# Altium schematic symbol library Lib_001.SchLib: 489 symbols (part 3 of 4)
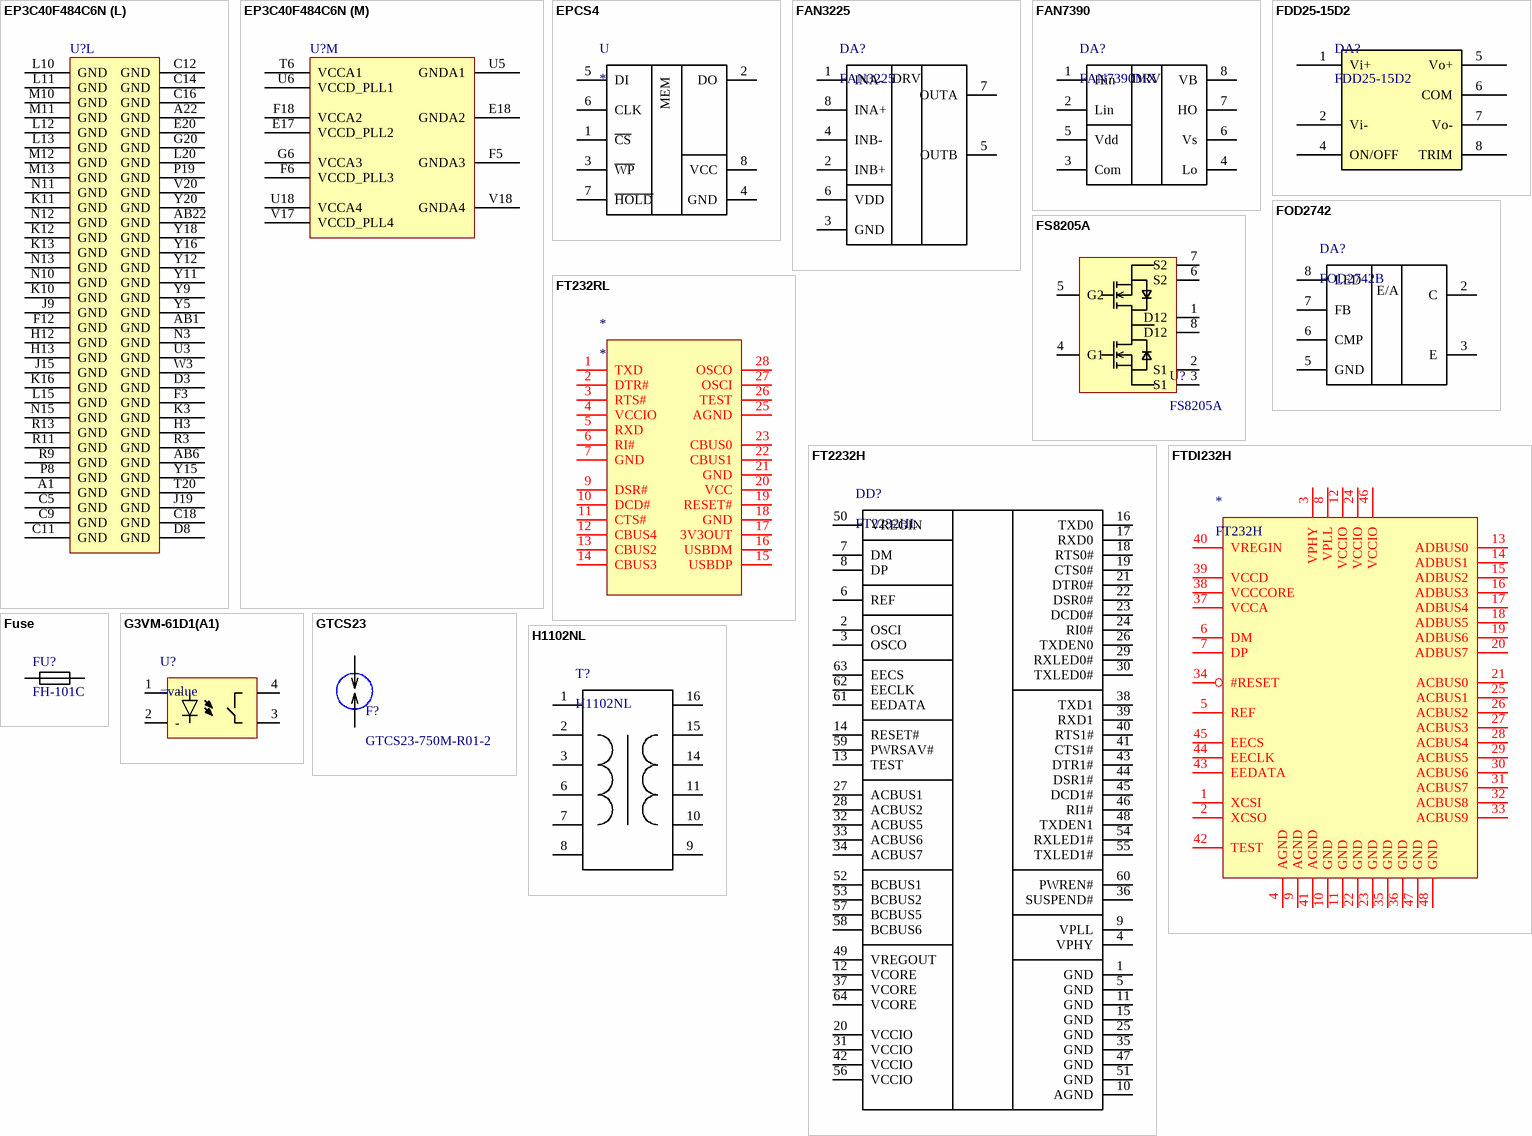
[diagram p38: symbols EP3C40F484C6N to H1102NL]

## EP3C40F484C6N
designator U?
Cyclone III Family FPGA, 331 I/O Pins, 4 PLLs, 484-Pin FBGA, Speed Grade 6, Commercial Grade, Pb-Free; Published: 26-Feb-2007; DatasheetVersion: ver2.0, May-2008; PackageVersion: ver16.0, Dec-2009; PackageReference: FBGA484-3; Publisher: Altium Limited; PackageDescription: 484-Ball FineLine Ball Grid Array (FBGA484) - Option 3 - Wire Bond; Supplier 1: Digi-Key; Supplier Part Number 1: 544-2490-ND; Code_JEDEC: MS-034-AAJ-1; ComponentLink1Description: Manufacturer Link; ComponentLink1URL: http://www.altera.com/; ComponentLink2Description: Handbook (7.86MB); ComponentLink2URL: http://www.altera.com/literature/hb/cyc3/cyclone3_handbook.pdf; ComponentLink3Description: Packaging Specification; ComponentLink3URL: http://www.altera.com/literature/ds/dspkg.pdf
footprint FBGA484-3 (BGA, 484-Leads, Body 23x23mm, Pitch 1mm)
3D model EP3C40-FBGA484-3 (484-Ball FineLine Ball Grid Array (FBGA484) - Option 3 - Wire Bond)
signal-integrity model EP3C40_F484 (Cyclone III)
footprint FBGA484-3 (BGA, 484-Leads, Body 23x23mm, Pitch 1mm)
3D model EP3C40-FBGA484-3 (PCB3D Model)
part A pins: B1 IO, DIFFIO_L2n, (DQ2L)/(DQ1L)/(DQ1L) (io), B2 IO, DIFFIO_L2p, (DQ2L)/(DQ1L)/(DQ1L) (io), C1 IO, DIFFIO_L7n, (DQ2L)/(DQ1L)/(DQ1L) (io), C2 IO, DIFFIO_L7p, (DQS2L/CQ3L,CDPCLK0)/(DQS2L/CQ3L,CDPCLK0)/(DQS2L/CQ3L,CDPCLK0) (io), D1 IO, DIFFIO_L8n, (DATA1, ASDO) (io), D2 IO, DIFFIO_L8p, (DQ2L)/(DQ1L)/(DQ1L) (io), E1 IO, DIFFIO_L10n, _/(DQ1L)/(DQ1L) (io), E2 IO, DIFFIO_L10p, (FLASH_nCE, nCSO) (io), E3 IO, DIFFIO_L4n, (DQ2L)/(DQ1L)/(DQ1L) (io), E4 IO, DIFFIO_L4p, (nRESET), (DQ2L)/(DQ1L)/(DQ1L) (io), F1 IO, DIFFIO_L12n, (DQ0L)/(DQ1L)/(DQ1L) (io), F2 IO, DIFFIO_L12p, (DM2L)/(DM1L0/BWS#1L0)/(DM1L0/BWS#1L0) (io), G3 IO, DIFFIO_L1n (io), G4 IO, DIFFIO_L1p (io), G5 IO, VREFB1N0 (io), H1 IO, DIFFIO_L23n, (DQ0L)/(DQ1L)/(DQ1L) (io), H2 IO, DIFFIO_L23p, (DQ0L)/(DQ1L)/(DQ1L) (io), H5 IO, VREFB1N2 (io), H6 IO, DIFFIO_L9p, (DQ2L)/(DQ1L)/(DQ1L) (io), H7 IO, VREFB1N1 (io), H8 IO, DIFFIO_L14p (io), J1 IO, DIFFIO_L24n, (DQ0L)/(DQ1L)/(DQ1L) (io), J2 IO, DIFFIO_L24p, (DQ0L)/(DQ1L)/(DQ1L) (io), J3 IO, VREFB1N3 (io), J4 IO, (DQS0L/CQ1L,DPCLK0)/(DQS0L/CQ1L,DPCLK0)/(DQS0L/CQ1L,DPCLK0) (io), J5 IO (io), J6 IO, DIFFIO_L9n, (DQ2L)/(DQ1L)/(DQ1L) (io), J7 IO, DIFFIO_L21p (io), J8 IO, DIFFIO_L14n (io), K1 IO, (DATA0) (io), K7 IO, DIFFIO_L21n (io), K8 IO, DIFFIO_L20n (io), L8 IO, DIFFIO_L20p (io)
part B pins: AA1 IO, DIFFIO_L50n, (DQ3L)/(DQ3L)/(DQ1L) (io), AA2 IO, DIFFIO_L50p (io), L6 IO, DIFFIO_L26p, (DQ0L)/(DQ1L)/(DQ1L) (io), L7 IO (io), M1 IO, DIFFIO_L27n, _/(DQ1L)/(DQ1L) (io), M2 IO, DIFFIO_L27p, (DQ0L)/(DQ1L)/(DQ1L) (io), M3 IO, DIFFIO_L28n, (DQ1L)/(DQ3L)/(DQ1L) (io), M4 IO, DIFFIO_L28p, (DM0L)/(DM1L1/BWS#1L1)/(DM1L1/BWS#1L1) (io), M5 IO, VREFB2N0 (io), M6 IO, DIFFIO_L26n, (DQ0L)/(DQ1L)/(DQ1L) (io), M7 IO, DIFFIO_L41n (io), M8 IO, DIFFIO_L42p (io), N1 IO, DIFFIO_L29n, (DQ1L)/(DQ3L)/(DQ1L) (io), N2 IO, DIFFIO_L29p, (DQ1L)/(DQ3L)/(DQ1L) (io), N5 IO, (DQ1L)/(DQ3L)/(DQ1L) (io), N6 IO, DIFFIO_L41p, (DQ3L)/(DQ3L)/(DQ1L) (io), N7 IO, DIFFIO_L49p (io), N8 IO, DIFFIO_L42n (io), P1 IO, DIFFIO_L32n, (DQ1L)/(DQ3L)/(DQ1L) (io), P2 IO, DIFFIO_L32p, (DQ1L)/(DQ3L)/(DQ1L) (io), P3 IO, DIFFIO_L34n, (DQ1L)/(DQ3L)/(DQ1L) (io), P4 IO, DIFFIO_L34p, (DQS1L/CQ1L#,DPCLK1)/(DQS1L/CQ1L#,DPCLK1)/(DQS1L/CQ1L#,DPCLK1) (io), P5 IO, VREFB2N1 (io), P6 IO (io), P7 IO, DIFFIO_L49n (io), R1 IO, DIFFIO_L33n, (DQ1L)/(DQ3L)/(DQ1L) (io), R2 IO, DIFFIO_L33p, (DQ1L)/(DQ3L)/(DQ1L) (io), R5 IO, VREFB2N3 (io), R6 IO (io), R7 IO, DIFFIO_L53p (io), T3 IO, VREFB2N2 (io), T4 IO, (DQS3L/CQ3L#,CDPCLK1)/(DQS3L/CQ3L#,CDPCLK1)/(DQS3L/CQ3L#,CDPCLK1) (io), T5 IO, (DM3L/BWS#3L)/(DM3L1/BWS#3L1)/(DM1L3/BWS#1L3) (io), T7 IO, DIFFIO_L53n (io), U1 IO, DIFFIO_L35n, (DQ3L)/(DQ3L)/(DQ1L) (io), U2 IO, DIFFIO_L35p, (DM1L/BWS#1L)/(DM3L0/BWS#3L0)/(DM1L2/BWS#1L2) (io), V1 IO, DIFFIO_L38n, (DQ3L)/(DQ3L)/(DQ1L) (io), V2 IO, DIFFIO_L38p, (DQ3L)/(DQ3L)/(DQ1L) (io), V3 IO, RDN1 (io), V4 IO, RUP1 (io), W1 IO, DIFFIO_L44n, (DQ3L)/(DQ3L)/(DQ1L) (io), W2 IO, DIFFIO_L44p, (DQ3L)/(DQ3L)/(DQ1L) (io), Y1 IO, DIFFIO_L45n, (DQ3L)/(DQ3L)/(DQ1L) (io), Y2 IO, DIFFIO_L45p, (DQ3L)/(DQ3L)/(DQ1L) (io)
part C pins: AA3 IO, PLL1_CLKOUTp (io), AA4 IO, (DQ3B)/(DQ3B)/(DQ5B) (io), AA5 IO, DIFFIO_B8p, (DQ3B)/(DQ3B)/(DQ5B) (io), AA7 IO, DIFFIO_B14p, (DM5B/BWS#5B)/(DM3B0/BWS#3B0)/(DM5B2/BWS#5B2) (io), AA8 IO, DIFFIO_B18p, (DQ5B)/(DQ3B)/(DQ5B) (io), AA9 IO, DIFFIO_B21p, (DQ5B)/(DQ3B)/(DQ5B) (io), AA10 IO, DIFFIO_B27p, (DM4B)/(DM5B1/BWS#5B1)/(DM5B1/BWS#5B1) (io), AB3 IO, PLL1_CLKOUTn (io), AB4 IO, VREFB3N2 (io), AB5 IO, DIFFIO_B8n (io), AB7 IO, DIFFIO_B14n, (DQ5B)/(DQ3B)/(DQ5B) (io), AB8 IO, DIFFIO_B18n, (DQ5B)/(DQ3B)/(DQ5B) (io), AB9 IO, DIFFIO_B21n, (DQS5B/CQ5B#,DPCLK3)/(DQS5B/CQ5B#,DPCLK3)/(DQS5B/CQ5B#,DPCLK3) (io), AB10 IO, DIFFIO_B27n, _/(DQ5B)/(DQ5B) (io), T8 IO, DIFFIO_B11p (io), T9 IO, DIFFIO_B11n (io), T10 IO, DIFFIO_B15p (io), T11 IO, DIFFIO_B15n (io), U7 IO, DIFFIO_B3p (io), U8 IO, DIFFIO_B3n (io), U9 IO, DIFFIO_B13p, (DQ3B)/(DQ3B)/(DQ5B) (io), U10 IO, (DQ5B)/(DQ3B)/(DQ5B) (io), U11 IO, VREFB3N0 (io), V5 IO, DIFFIO_B1n, (DM3B/BWS#3B)/(DM3B1/BWS#3B1)/(DM5B3/BWS#5B3) (io), V6 IO, DIFFIO_B1p (io), V7 IO, DIFFIO_B7n (io), V8 IO, DIFFIO_B13n, (DQ3B)/(DQ3B)/(DQ5B) (io), V9 IO, VREFB3N1 (io), V10 IO, (DQS3B/CQ3B#,DPCLK2)/(DQS3B/CQ3B#,DPCLK2)/(DQS3B/CQ3B#,DPCLK2) (io), V11 IO, (DQ5B)/(DQ3B)/(DQ5B) (io), W6 IO, DIFFIO_B7p, (DQ3B)/(DQ3B)/(DQ5B) (io), W7 IO, DIFFIO_B12p, (DQ3B)/(DQ3B)/(DQ5B) (io), W8 IO, (DQ3B)/(DQ3B)/(DQ5B) (io), W10 IO, DIFFIO_B26p, (DQ5B)/(DQ3B)/(DQ5B) (io), Y3 IO, (DQ3B)/(DQ3B)/(DQ5B) (io), Y4 IO, VREFB3N3 (io), Y6 IO, (DQS1B/CQ1B#,CDPCLK2)/(DQS1B/CQ1B#,CDPCLK2)/(DQS1B/CQ1B#,CDPCLK2) (io), Y7 IO, DIFFIO_B12n, (DQ3B)/(DQ3B)/(DQ5B) (io), Y8 IO, (DQ5B)/(DQ3B)/(DQ5B) (io), Y10 IO, DIFFIO_B26n, (DQ5B)/(DQ3B)/(DQ5B) (io)
part D pins: AA13 IO, DIFFIO_B28p, (DQ4B)/(DQ5B)/(DQ5B) (io), AA14 IO, DIFFIO_B29p, (DQ4B)/(DQ5B)/(DQ5B) (io), AA15 IO, DIFFIO_B33p, (DQ4B)/(DQ5B)/(DQ5B) (io), AA16 IO, DIFFIO_B35p, (DM2B)/(DM5B0/BWS#5B0)/(DM5B0/BWS#5B0) (io), AA17 IO, DIFFIO_B43p (io), AA18 IO, VREFB4N1 (io), AA19 IO, RUP2 (io), AA20 IO, DIFFIO_B49p, _/(DQ5B)/(DQ5B) (io), AB13 IO, DIFFIO_B28n, (DQ4B)/(DQ5B)/(DQ5B) (io), AB14 IO, DIFFIO_B29n, (DQ4B)/(DQ5B)/(DQ5B) (io), AB15 IO, DIFFIO_B33n, (DQ4B)/(DQ5B)/(DQ5B) (io), AB16 IO, DIFFIO_B35n, (DQ2B)/(DQ5B)/(DQ5B) (io), AB17 IO, DIFFIO_B43n (io), AB18 IO, (DQ2B)/(DQ5B)/(DQ5B) (io), AB19 IO, RDN2 (io), AB20 IO, DIFFIO_B49n, (DQ2B)/(DQ5B)/(DQ5B) (io), R14 IO, DIFFIO_B52p (io), R15 IO, DIFFIO_B52n (io), R16 IO, PLL4_CLKOUTn (io), T12 IO, DIFFIO_B36p (io), T13 IO, DIFFIO_B36n (io), T14 IO, DIFFIO_B42p (io), T15 IO, DIFFIO_B42n, (DQ2B)/(DQ5B)/(DQ5B) (io), T16 IO, PLL4_CLKOUTp (io), U12 IO, (DQ4B)/(DQ5B)/(DQ5B) (io), U13 IO (io), U14 IO, DIFFIO_B39n (io), U15 IO, DIFFIO_B40p (io), U16 IO, DIFFIO_B50p (io), U17 IO, DIFFIO_B50n (io), V12 IO, VREFB4N3 (io), V13 IO, (DQS2B/CQ3B,DPCLK5)/(DQS2B/CQ3B,DPCLK5)/(DQS2B/CQ3B,DPCLK5) (io), V14 IO, DIFFIO_B39p, (DQ2B)/(DQ5B)/(DQ5B) (io), V15 IO, DIFFIO_B40n, (DQ2B)/(DQ5B)/(DQ5B) (io), V16 IO, VREFB4N0 (io), W13 IO, DIFFIO_B32p, (DQ4B)/(DQ5B)/(DQ5B) (io), W14 IO, VREFB4N2 (io), W15 IO, (DQ2B)/(DQ5B)/(DQ5B) (io), W17 IO, DIFFIO_B48p, (DQ2B)/(DQ5B)/(DQ5B) (io), Y13 IO, DIFFIO_B32n, (DQS4B/CQ5B,DPCLK4)/(DQS4B/CQ5B,DPCLK4)/(DQS4B/CQ5B,DPCLK4) (io), Y17 IO, DIFFIO_B48n, (DQS0B/CQ1B,CDPCLK3)/(DQS0B/CQ1B,CDPCLK3)/(DQS0B/CQ1B,CDPCLK3) (io)
part E pins: AA21 IO, DIFFIO_R56p, (DM3R/BWS#3R)/(DM3R1/BWS#3R1)/(DM1R3/BWS#1R3) (io), AA22 IO, DIFFIO_R56n (io), M16 IO, VREFB5N0 (io), M19 IO, DIFFIO_R30p, (DQ1R)/(DQ3R)/(DQ1R) (io), M20 IO, DIFFIO_R30n, (DQ1R)/(DQ3R)/(DQ1R) (io), M21 IO, DIFFIO_R31p, (DQ1R)/(DQ3R)/(DQ1R) (io), M22 IO, DIFFIO_R31n, (DQ1R)/(DQ3R)/(DQ1R) (io), N16 IO (io), N17 IO, DIFFIO_R33n (io), N18 IO, DIFFIO_R33p, (DQS1R/CQ1R#,DPCLK6)/(DQS1R/CQ1R#,DPCLK6)/(DQS1R/CQ1R#,DPCLK6) (io), N19 IO, DIFFIO_R36p (io), N20 IO, DIFFIO_R36n, (DQ1R)/(DQ3R)/(DQ1R) (io), N21 IO, DIFFIO_R32p, (DEV_CLRn) (io), N22 IO, DIFFIO_R32n, (DEV_OE) (io), P15 IO, DIFFIO_R46n (io), P16 IO, DIFFIO_R46p (io), P17 IO (io), P20 IO, VREFB5N1 (io), P21 IO, DIFFIO_R38p, (DQ1R)/(DQ3R)/(DQ1R) (io), P22 IO, DIFFIO_R38n, (DQ1R)/(DQ3R)/(DQ1R) (io), R17 IO, VREFB5N2 (io), R18 IO, DIFFIO_R42n (io), R19 IO, DIFFIO_R42p, (DM1R/BWS#1R)/(DM3R0/BWS#3R0)/(DM1R2/BWS#1R2) (io), R20 IO, (DQ3R)/(DQ3R)/(DQ1R) (io), R21 IO, DIFFIO_R39p, (DQ1R)/(DQ3R)/(DQ1R) (io), R22 IO, DIFFIO_R39n, (DQ1R)/(DQ3R)/(DQ1R) (io), T17 IO, RUP3 (io), T18 IO, RDN3 (io), U19 IO, DIFFIO_R50p (io), U20 IO, DIFFIO_R50n, (DQ3R)/(DQ3R)/(DQ1R) (io), U21 IO, DIFFIO_R43p, (DQ3R)/(DQ3R)/(DQ1R) (io), U22 IO, DIFFIO_R43n, (DQ3R)/(DQ3R)/(DQ1R) (io), V21 IO, DIFFIO_R45p, (DQ3R)/(DQ3R)/(DQ1R) (io), V22 IO, DIFFIO_R45n, (DQ3R)/(DQ3R)/(DQ1R) (io), W19 IO, VREFB5N3 (io), W20 IO, (DQS3R/CQ3R#,CDPCLK4)/(DQS3R/CQ3R#,CDPCLK4)/(DQS3R/CQ3R#,CDPCLK4) (io), W21 IO, DIFFIO_R49p, (DQ3R)/(DQ3R)/(DQ1R) (io), W22 IO, DIFFIO_R49n, (DQ3R)/(DQ3R)/(DQ1R) (io), Y21 IO, DIFFIO_R51p (io), Y22 IO, DIFFIO_R51n, (DQ3R)/(DQ3R)/(DQ1R) (io)
part F pins: B21 IO, DIFFIO_R5p, (PADD21), (DQ2R)/(DQ1R)/(DQ1R) (io), B22 IO, DIFFIO_R5n, (PADD22), (DQ2R)/(DQ1R)/(DQ1R) (io), C20 IO, (PADD20), (DQS2R/CQ3R,CDPCLK5)/(DQS2R/CQ3R,CDPCLK5)/(DQS2R/CQ3R,CDPCLK5) (io), C21 IO, DIFFIO_R6p, (DQ2R)/(DQ1R)/(DQ1R) (io), C22 IO, DIFFIO_R6n, (DQ2R)/(DQ1R)/(DQ1R) (io), D20 IO, VREFB6N0 (io), D21 IO, DIFFIO_R9p, _/(DQ1R)/(DQ1R) (io), D22 IO, DIFFIO_R9n, (DM2R)/(DM1R0/BWS#1R0)/(DM1R0/BWS#1R0) (io), E21 IO, DIFFIO_R12p, (nOE), _/(DQ1R)/(DQ1R) (io), E22 IO, DIFFIO_R12n, (nWE), (DQ0R)/(DQ1R)/(DQ1R) (io), F17 IO, DIFFIO_R2n, (DQ2R)/(DQ1R)/(DQ1R) (io), F19 IO, DIFFIO_R8p, (RDY), (DQ2R)/(DQ1R)/(DQ1R) (io), F20 IO, DIFFIO_R8n, (nAVD), (DQ2R)/(DQ1R)/(DQ1R) (io), F21 IO, DIFFIO_R18p, (DQ0R)/(DQ1R)/(DQ1R) (io), F22 IO, DIFFIO_R18n, (DQ0R)/(DQ1R)/(DQ1R) (io), G17 IO, DIFFIO_R2p (io), G18 IO, DIFFIO_R7n, (PADD23), (DQ2R)/(DQ1R)/(DQ1R) (io), H16 IO, DIFFIO_R10p (io), H17 IO, DIFFIO_R7p (io), H18 IO, VREFB6N1 (io), H19 IO, DIFFIO_R13p, (DQ0R)/(DQ1R)/(DQ1R) (io), H20 IO, DIFFIO_R13n, (DQ0R)/(DQ1R)/(DQ1R) (io), H21 IO, DIFFIO_R22p, (DQ0R)/(DQ1R)/(DQ1R) (io), H22 IO, DIFFIO_R22n, (DQ0R)/(DQ1R)/(DQ1R) (io), J17 IO, DIFFIO_R10n (io), J18 IO, VREFB6N2 (io), J21 IO, DIFFIO_R23p, (DM0R)/(DM1R1/BWS#1R1)/(DM1R1/BWS#1R1) (io), J22 IO, DIFFIO_R23n, (DQS0R/CQ1R,DPCLK7)/(DQS0R/CQ1R,DPCLK7)/(DQS0R/CQ1R,DPCLK7) (io), K17 IO, DIFFIO_R20n (io), K18 IO, DIFFIO_R20p, (DQ0R)/(DQ1R)/(DQ1R) (io), K19 IO, VREFB6N3 (io), K21 IO, DIFFIO_R24p, (CLKUSR) (io), K22 IO, DIFFIO_R24n, (nCEO) (io), L21 IO, DIFFIO_R27p, (CRC_ERROR) (io), L22 IO, DIFFIO_R27n, (INIT_DONE) (io)
part G pins: A13 IO, DIFFIO_T29n, (PADD11), (DQ4T)/(DQ5T)/(DQ5T) (io), A14 IO, DIFFIO_T31n, (PADD9), (DQ4T)/(DQ5T)/(DQ5T) (io), A15 IO, DIFFIO_T36n, (PADD5), (DQ4T)/(DQ5T)/(DQ5T) (io), A16 IO, DIFFIO_T40n, (DM2T)/(DM5T0/BWS#5T0)/(DM5T0/BWS#5T0) (io), A17 IO, DIFFIO_T41n, (PADD1), (DQ2T)/(DQ5T)/(DQ5T) (io), A18 IO, DIFFIO_T45n, (DQ2T)/(DQ5T)/(DQ5T) (io), A19 IO, RDN4 (io), A20 IO, PLL2_CLKOUTn (io), B13 IO, DIFFIO_T29p, (PADD12), (DQS4T/CQ5T,DPCLK9)/(DQS4T/CQ5T,DPCLK9)/(DQS4T/CQ5T,DPCLK9) (io), B14 IO, DIFFIO_T31p, (PADD10), (DQ4T)/(DQ5T)/(DQ5T) (io), B15 IO, DIFFIO_T36p, (PADD6), (DQ4T)/(DQ5T)/(DQ5T) (io), B16 IO, DIFFIO_T40p, (DQ4T)/(DQ5T)/(DQ5T) (io), B17 IO, DIFFIO_T41p, (PADD2), _/(DQ5T)/(DQ5T) (io), B18 IO, DIFFIO_T45p, (PADD0) (io), B19 IO, RUP4 (io), B20 IO, PLL2_CLKOUTp (io), C13 IO, DIFFIO_T35n, (PADD7) (io), C15 IO, VREFB7N2 (io), C17 IO, (DQ2T)/(DQ5T)/(DQ5T) (io), C19 IO, DIFFIO_T47n, (DQ2T)/(DQ5T)/(DQ5T) (io), D13 IO, DIFFIO_T35p, (PADD8), (DQ4T)/(DQ5T)/(DQ5T) (io), D15 IO, VREFB7N1 (io), D17 IO, VREFB7N0 (io), D19 IO, DIFFIO_T47p, (DQ2T)/(DQ5T)/(DQ5T) (io), E11 IO, DIFFIO_T27n, (PADD13) (io), E12 IO, _/(DQ5T)/(DQ5T) (io), E13 IO, VREFB7N3 (io), E14 IO, (PADD3), (DQ4T)/(DQ5T)/(DQ5T) (io), E15 IO, DIFFIO_T44n, (DQ2T)/(DQ5T)/(DQ5T) (io), E16 IO, DIFFIO_T51p, (DQ2T)/(DQ5T)/(DQ5T) (io), F11 IO, DIFFIO_T27p, (PADD14), (DM4T)/(DM5T1/BWS#5T1)/(DM5T1/BWS#5T1) (io), F13 IO, (PADD4), (DQS2T/CQ3T,DPCLK8)/(DQS2T/CQ3T,DPCLK8)/(DQS2T/CQ3T,DPCLK8) (io), F14 IO, DIFFIO_T49p, (DQS0T/CQ1T,CDPCLK6)/(DQS0T/CQ1T,CDPCLK6)/(DQS0T/CQ1T,CDPCLK6) (io), F15 IO, DIFFIO_T50n, (DQ2T)/(DQ5T)/(DQ5T) (io), F16 IO, DIFFIO_T51n (io), G13 IO (io), G14 IO, DIFFIO_T44p (io), G15 IO, DIFFIO_T49n (io), G16 IO, DIFFIO_T50p (io), H14 IO, DIFFIO_T48p (io), H15 IO, DIFFIO_T48n (io)
part H pins: A3 IO, DIFFIO_T4n, (DATA10), (DQ3T)/(DQ3T)/(DQ5T) (io), A4 IO, DIFFIO_T6n, (DQ3T)/(DQ3T)/(DQ5T) (io), A5 IO, (DATA5), (DQ3T)/(DQ3T)/(DQ5T) (io), A6 IO, DIFFIO_T18n, (PADD19), (DQ5T)/(DQ3T)/(DQ5T) (io), A7 IO, DIFFIO_T19n, (PADD18), (DQ5T)/(DQ3T)/(DQ5T) (io), A8 IO, DIFFIO_T20n, (DATA2), (DQ5T)/(DQ3T)/(DQ5T) (io), A9 IO, DIFFIO_T24n, (PADD16), (DQ5T)/(DQ3T)/(DQ5T) (io), A10 IO, DIFFIO_T25n, (DQ5T)/(DQ3T)/(DQ5T) (io), B3 IO, DIFFIO_T4p, (DATA11), (DQ3T)/(DQ3T)/(DQ5T) (io), B4 IO, DIFFIO_T6p, (DATA8), (DQ3T)/(DQ3T)/(DQ5T) (io), B5 IO, VREFB8N2 (io), B6 IO, DIFFIO_T18p, (DATA15), (DQ5T)/(DQ3T)/(DQ5T) (io), B7 IO, DIFFIO_T19p, (DATA4), (DQ5T)/(DQ3T)/(DQ5T) (io), B8 IO, DIFFIO_T20p, (DATA3), (DQ5T)/(DQ3T)/(DQ5T) (io), B9 IO, DIFFIO_T24p, (PADD17), (DQS5T/CQ5T#,DPCLK10)/(DQS5T/CQ5T#,DPCLK10)/(DQS5T/CQ5T#,DPCLK10) (io), B10 IO, DIFFIO_T25p, (PADD15) (io), C3 IO, DIFFIO_T3n, (DQ3T)/(DQ3T)/(DQ5T) (io), C4 IO, DIFFIO_T3p, (DATA12), (DQS1T/CQ1T#,CDPCLK7)/(DQS1T/CQ1T#,CDPCLK7)/(DQS1T/CQ1T#,CDPCLK7) (io), C6 IO, DIFFIO_T7n, (DATA7), (DQ3T)/(DQ3T)/(DQ5T) (io), C7 IO, DIFFIO_T16p, (DATA13), (DM5T/BWS#5T)/(DM3T0/BWS#3T0)/(DM5T2/BWS#5T2) (io), C8 IO, DIFFIO_T16n, (DATA14), (DQS3T/CQ3T#,DPCLK11)/(DQS3T/CQ3T#,DPCLK11)/(DQS3T/CQ3T#,DPCLK11) (io), C10 IO, VREFB8N0 (io), D6 IO, VREFB8N3 (io), D7 IO, DIFFIO_T7p (io), D10 IO, DIFFIO_T26n, (DQ5T)/(DQ3T)/(DQ5T) (io), E5 IO, PLL3_CLKOUTp (io), E6 IO, PLL3_CLKOUTn (io), E7 IO (io), E9 IO, VREFB8N1 (io), E10 IO, DIFFIO_T26p (io), F7 IO, DIFFIO_T1n, (DM3T/BWS#3T)/(DM3T1/BWS#3T1)/(DM5T3/BWS#5T3) (io), F8 IO, DIFFIO_T5n, (DATA9), (DQ3T)/(DQ3T)/(DQ5T) (io), F9 IO (io), F10 IO, DIFFIO_T8p, (DATA6), (DQ3T)/(DQ3T)/(DQ5T) (io), G7 IO, DIFFIO_T1p (io), G8 IO, DIFFIO_T5p (io), G9 IO (io), G10 IO, DIFFIO_T8n (io), G11 IO (io), H10 IO, DIFFIO_T14p (io), H11 IO, DIFFIO_T14n (io)
part I pins: A11 CLK10, DIFFCLK_4n (in), A12 CLK8, DIFFCLK_5n (in), AA11 CLK15, DIFFCLK_6p (in), AA12 CLK13, DIFFCLK_7p (in), AB11 CLK14, DIFFCLK_6n (in), AB12 CLK12, DIFFCLK_7n (in), B11 CLK11, DIFFCLK_4p (in), B12 CLK9, DIFFCLK_5p (in), G1 CLK1, DIFFCLK_0n (in), G2 CLK0, DIFFCLK_0p (in), G21 CLK4, DIFFCLK_2p (in), G22 CLK5, DIFFCLK_2n (in), T1 CLK3, DIFFCLK_1n (in), T2 CLK2, DIFFCLK_1p (in), T21 CLK6, DIFFCLK_3p (in), T22 CLK7, DIFFCLK_3n (in)
part J pins: K2 DCLK (io), K5 nCONFIG (in), K6 nSTATUS (io), K20 MSEL3 (in), L1 TMS (in), L2 TCK (in), L3 nCE (in), L4 TDO (out), L5 TDI (in), L17 MSEL2 (in), L18 MSEL1 (in), M17 MSEL0 (in), M18 CONF_DONE (io)
part K pins: A2 VCCIO8 (power), A21 VCCIO7 (power), AA6 VCCIO3 (power), AB2 VCCIO3 (power), AB21 VCCIO4 (power), D4 VCCIO1 (power), D5 VCCIO8 (power), D9 VCCIO8 (power), D11 VCCIO8 (power), D12 VCCIO7 (power), D14 VCCIO7 (power), D16 VCCIO7 (power), D18 VCCIO7 (power), E8 VCCIO8 (power), E19 VCCIO6 (power), F4 VCCIO1 (power), G12 VCCINT (power), G19 VCCIO6 (power), H4 VCCIO1 (power), H9 VCCINT (power), J10 VCCINT (power), J11 VCCINT (power), J12 VCCINT (power), J13 VCCINT (power), J14 VCCINT (power), J16 VCCINT (power), J20 VCCIO6 (power), K4 VCCIO1 (power), K9 VCCINT (power), K14 VCCINT (power), K15 VCCINT (power), L9 VCCINT (power), L14 VCCINT (power), L16 VCCINT (power), L19 VCCIO6 (power), M9 VCCINT (power), M14 VCCINT (power), M15 VCCINT (power), N4 VCCIO2 (power), N9 VCCINT (power), N14 VCCINT (power), P9 VCCINT (power), P10 VCCINT (power), P11 VCCINT (power), P12 VCCINT (power), P13 VCCINT (power), P14 VCCINT (power), P18 VCCIO5 (power), R4 VCCIO2 (power), R8 VCCINT (power), R10 VCCINT (power), R12 VCCINT (power), T19 VCCIO5 (power), U4 VCCIO2 (power), V19 VCCIO5 (power), W4 VCCIO2 (power), W5 VCCIO3 (power), W9 VCCIO3 (power), W11 VCCIO3 (power), W12 VCCIO4 (power), W16 VCCIO4 (power), W18 VCCIO4 (power), Y14 VCCIO4 (power), Y19 VCCIO5 (power)
part L pins: A1 GND (power), A22 GND (power), AB1 GND (power), AB6 GND (power), AB22 GND (power), C5 GND (power), C9 GND (power), C11 GND (power), C12 GND (power), C14 GND (power), C16 GND (power), C18 GND (power), D3 GND (power), D8 GND (power), E20 GND (power), F3 GND (power), F12 GND (power), G20 GND (power), H3 GND (power), H12 GND (power), H13 GND (power), J9 GND (power), J15 GND (power), J19 GND (power), K3 GND (power), K10 GND (power), K11 GND (power), K12 GND (power), K13 GND (power), K16 GND (power), L10 GND (power), L11 GND (power), L12 GND (power), L13 GND (power), L15 GND (power), L20 GND (power), M10 GND (power), M11 GND (power), M12 GND (power), M13 GND (power), N3 GND (power), N10 GND (power), N11 GND (power), N12 GND (power), N13 GND (power), N15 GND (power), P8 GND (power), P19 GND (power), R3 GND (power), R9 GND (power), R11 GND (power), R13 GND (power), T20 GND (power), U3 GND (power), V20 GND (power), W3 GND (power), Y5 GND (power), Y9 GND (power), Y11 GND (power), Y12 GND (power), Y15 GND (power), Y16 GND (power), Y18 GND (power), Y20 GND (power)
part M pins: E17 VCCD_PLL2 (power), E18 GNDA2 (power), F5 GNDA3 (power), F6 VCCD_PLL3 (power), F18 VCCA2 (power), G6 VCCA3 (power), T6 VCCA1 (power), U5 GNDA1 (power), U6 VCCD_PLL1 (power), U18 VCCA4 (power), V17 VCCD_PLL4 (power), V18 GNDA4 (power)
part A text: BANK 1
part B text: BANK 2
part C text: BANK 3
part D text: BANK 4
part E text: BANK 5
part F text: BANK 6
part G text: BANK 7
part H text: BANK 8

## EPCS4
designator U
pins: 1 ~{CS}, 2 DO, 3 ~{WP}, 4 GND, 5 DI, 6 CLK, 7 ~{HOLD}, 8 VCC
text: MEM

## FAN3225
designator DA?
MOSFET DRV; value: FAN3225
footprint SO8 (SOIC, 8-Leads, Body 4.9x3.9mm, Pitch 1.27mm, IPC Medium Density)
pins: 1 INA-, 2 INB+, 3 GND, 4 INB-, 5 OUTB, 6 VDD, 7 OUTA, 8 INA+
text: DRV

## FAN7390
designator DA?, comment FAN7390MX
Power Factor Controller; value: FAN7390MX
footprint SO8 (SOIC, 8-Leads, Body 4.9x3.9mm, Pitch 1.27mm, IPC Medium Density)
pins: 1 Hin, 2 Lin, 3 Com, 4 Lo, 5 Vdd, 6 Vs, 7 HO, 8 VB
text: DRV

## FDD25-15D2
designator DA?
DC-DC CONVERTER  20~30W  SINGLE&DUAL OUTPUT; value: FDD25-15D2
footprint FDD25 Series
pins: 1 Vi+, 2 Vi-, 4 ON/OFF, 5 Vo+, 6 COM, 7 Vo-, 8 TRIM

## FOD2742
designator DA?, comment FOD2742B
Optically Isolated Error Amplifier; value: FOD2742B
footprint DIP8_300mil
footprint SOIC8
pins: 2 C, 3 E, 5 GND, 6 CMP, 7 FB, 8 LED
text: E/A

## FS8205A
designator U?
footprint TSSOP-8
pins: 1 D12, 2 S1, 3 D, 3 S1, 4 G1, 5 G2, 6 S2, 7 S2, 8 D12

## FT232RL
designator *
footprint SSOP-28
pins: 1 TXD, 2 DTR#, 3 RTS#, 4 VCCIO, 5 RXD, 6 RI#, 7 GND, 8 NC hidden, 9 DSR#, 10 DCD#, 11 CTS#, 12 CBUS4, 13 CBUS2, 14 CBUS3, 15 USBDP, 16 USBDM, 17 3V3OUT, 18 GND, 19 RESET#, 20 VCC, 21 GND, 22 CBUS1, 23 CBUS0, 24 NC hidden, 25 AGND, 26 TEST, 27 OSCI, 28 OSCO

## FT2232H
designator DD?, comment FT2232HL
value: FT2232HL
footprint LQFP64 (Thin QFP, 64-Leads, Body 10x10mm, Pitch 0.5mm, IPC Low Density)
pins: 1 GND, 2 OSCI, 3 OSCO, 4 VPHY, 5 GND, 6 REF, 7 DM, 8 DP, 9 VPLL, 10 AGND, 11 GND, 12 VCORE, 13 TEST, 14 RESET#, 15 GND, 16 TXD0, 17 RXD0, 18 RTS0#, 19 CTS0#, 20 VCCIO, 21 DTR0#, 22 DSR0#, 23 DCD0#, 24 RI0#, 25 GND, 26 TXDEN0, 27 ACBUS1, 28 ACBUS2, 29 RXLED0#, 30 TXLED0#, 31 VCCIO, 32 ACBUS5, 33 ACBUS6, 34 ACBUS7, 35 GND, 36 SUSPEND#, 37 VCORE, 38 TXD1, 39 RXD1, 40 RTS1#, 41 CTS1#, 42 VCCIO, 43 DTR1#, 44 DSR1#, 45 DCD1#, 46 RI1#, 47 GND, 48 TXDEN1, 49 VREGOUT, 50 VREGIN, 51 GND, 52 BCBUS1, 53 BCBUS2, 54 RXLED1#, 55 TXLED1#, 56 VCCIO, 57 BCBUS5, 58 BCBUS6, 59 PWRSAV#, 60 PWREN#, 61 EEDATA, 62 EECLK, 63 EECS, 64 VCORE

## FTDI232H
designator *, comment FT232H
pins: 1 XCSI, 2 XCSO, 3 VPHY, 4 AGND, 5 REF, 6 DM, 7 DP, 8 VPLL, 9 AGND, 10 GND, 11 GND, 12 VCCIO, 13 ADBUS0, 14 ADBUS1, 15 ADBUS2, 16 ADBUS3, 17 ADBUS4, 18 ADBUS5, 19 ADBUS6, 20 ADBUS7, 21 ACBUS0, 22 GND, 23 GND, 24 VCCIO, 25 ACBUS1, 26 ACBUS2, 27 ACBUS3, 28 ACBUS4, 29 ACBUS5, 30 ACBUS6, 31 ACBUS7, 32 ACBUS8, 33 ACBUS9, 34 #RESET, 35 GND, 36 GND, 37 VCCA, 38 VCCCORE, 39 VCCD, 40 VREGIN, 41 AGND, 42 TEST, 43 EEDATA, 44 EECLK, 45 EECS, 46 VCCIO, 47 GND, 48 GND

## Fuse
designator FU?, comment FH-101C
value: FH-101C
pins: 1, 2

## G3VM-61D1(A1)
designator U?
dip4smd: G3VM-61D1; dip4: G3VM-61A1
footprint dip4
footprint dip4SMD
pins: 1 +, 2 -, 3, 4

## GTCS23
designator F?, comment GTCS23-750M-R01-2
value: GTCS23-750M-R01-2
footprint GTCS23
pins: 1, 2

## H1102NL
designator T?
value: H1102NL
pins: 1, 2, 3, 6, 7, 8, 9, 10, 11, 14, 15, 16

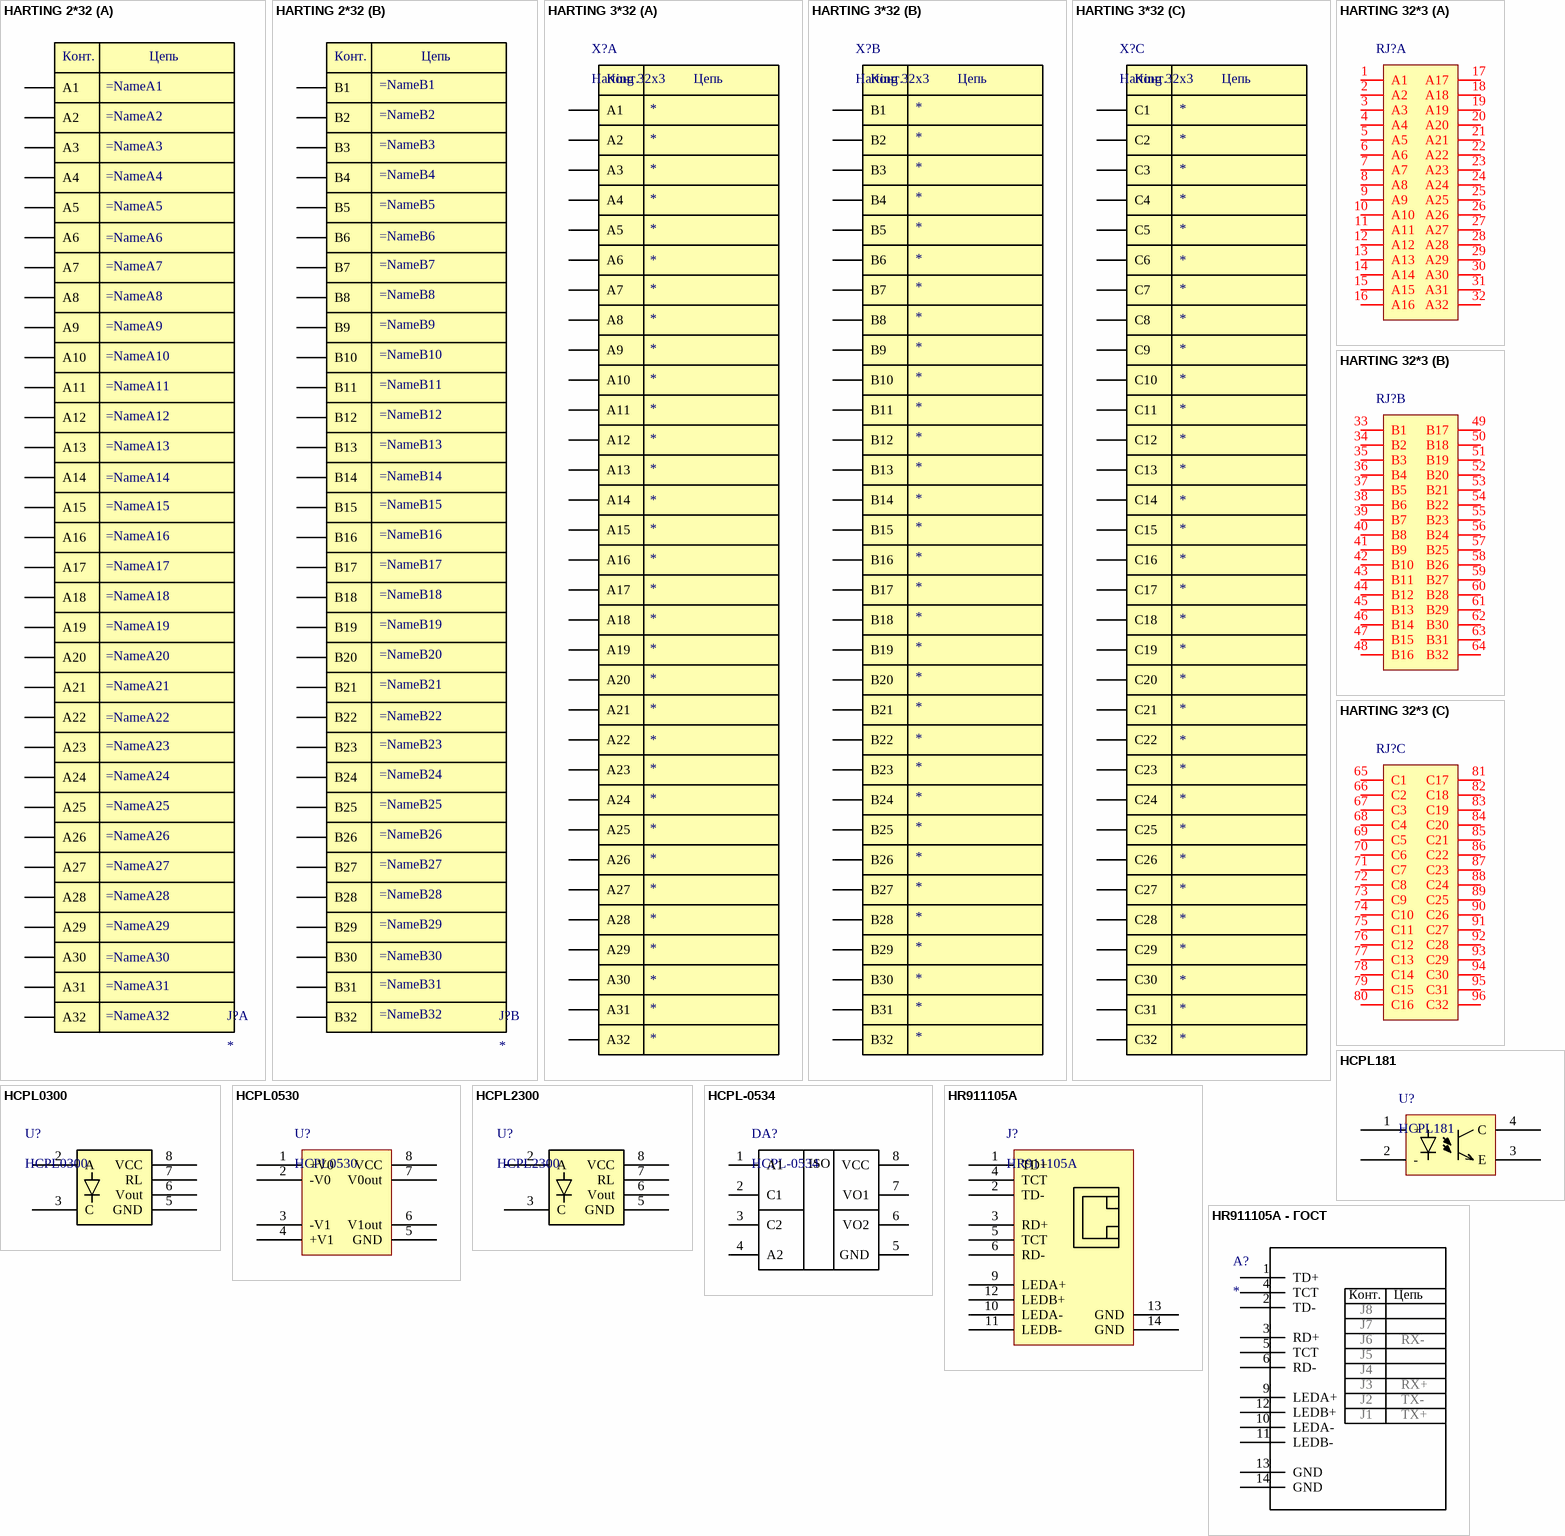
[diagram p21: symbols HARTING 2*32 to HR911105A - ГОСТ]

## HARTING 2*32
designator J?
footprint HARTING 2*32 - 09021647922
footprint HARTING 2*32 - 09721646903
part A pins: A1, A2, A3, A4, A5, A6, A7, A8, A9, A10, A11, A12, A13, A14, A15, A16, A17, A18, A19, A20, A21, A22, A23, A24, A25, A26, A27, A28, A29, A30, A31, A32
part B pins: B1, B2, B3, B4, B5, B6, B7, B8, B9, B10, B11, B12, B13, B14, B15, B16, B17, B18, B19, B20, B21, B22, B23, B24, B25, B26, B27, B28, B29, B30, B31, B32
part A text: Конт.; Цепь
part B text: Конт.; Цепь

## HARTING 3*32
designator X?, comment Harting 32x3
NameA1: *; NameA2: *; NameA3: *; NameA4: *; NameA5: *; NameA6: *; NameA7: *; NameA8: *; NameA9: *; NameA10: *; NameA11: *; NameA12: *; NameA13: *; NameA14: *; NameA15: *; NameA16: *; NameA17: *; NameA18: *; NameA19: *; NameA20: *; NameA21: *; NameA22: *; NameA23: *; NameA24: *; NameA25: *; NameA26: *; NameA27: *; NameA28: *; NameA29: *; NameA30: *; NameA31: *; NameA32: *; NameB1: *; NameB2: *; NameB3: *; NameB4: *; NameB5: *; NameB6: *; NameB7: *; NameB8: *; NameB9: *; NameB10: *; NameB11: *; NameB12: *; NameB13: *; NameB14: *; NameB15: *; NameB16: *; NameB17: *; NameB18: *; NameB19: *; NameB20: *; NameB21: *; NameB22: *; NameB23: *; NameB24: *; NameB25: *; NameB26: *; NameB27: *; NameB28: *; NameB29: *; NameB30: *; NameB31: *; NameB32: *; NameC1: *; NameC2: *; NameC3: *; NameC4: *; NameC5: *; NameC6: *; NameC7: *; NameC8: *; NameC9: *; NameC10: *; NameC11: *; NameC12: *; NameC13: *; NameC14: *; NameC15: *; NameC16: *; NameC17: *; NameC18: *; NameC19: *; NameC20: *; NameC21: *; NameC22: *; NameC23: *; NameC24: *; NameC25: *; NameC26: *; NameC27: *; NameC28: *; NameC29: *; NameC30: *; NameC31: *; NameC32: *
part A pins: A1, A2, A3, A4, A5, A6, A7, A8, A9, A10, A11, A12, A13, A14, A15, A16, A17, A18, A19, A20, A21, A22, A23, A24, A25, A26, A27, A28, A29, A30, A31, A32
part B pins: B1, B2, B3, B4, B5, B6, B7, B8, B9, B10, B11, B12, B13, B14, B15, B16, B17, B18, B19, B20, B21, B22, B23, B24, B25, B26, B27, B28, B29, B30, B31, B32
part C pins: C1, C2, C3, C4, C5, C6, C7, C8, C9, C10, C11, C12, C13, C14, C15, C16, C17, C18, C19, C20, C21, C22, C23, C24, C25, C26, C27, C28, C29, C30, C31, C32
part A text: Конт.; Цепь
part B text: Конт.; Цепь
part C text: Конт.; Цепь

## HARTING 32*3
designator RJ?
footprint Harting 32*3
part A pins: 1 A1, 2 A2, 3 A3, 4 A4, 5 A5, 6 A6, 7 A7, 8 A8, 9 A9, 10 A10, 11 A11, 12 A12, 13 A13, 14 A14, 15 A15, 16 A16, 17 A17, 18 A18, 19 A19, 20 A20, 21 A21, 22 A22, 23 A23, 24 A24, 25 A25, 26 A26, 27 A27, 28 A28, 29 A29, 30 A30, 31 A31, 32 A32
part B pins: 33 B1, 34 B2, 35 B3, 36 B4, 37 B5, 38 B6, 39 B7, 40 B8, 41 B9, 42 B10, 43 B11, 44 B12, 45 B13, 46 B14, 47 B15, 48 B16, 49 B17, 50 B18, 51 B19, 52 B20, 53 B21, 54 B22, 55 B23, 56 B24, 57 B25, 58 B26, 59 B27, 60 B28, 61 B29, 62 B30, 63 B31, 64 B32
part C pins: 65 C1, 66 C2, 67 C3, 68 C4, 69 C5, 70 C6, 71 C7, 72 C8, 73 C9, 74 C10, 75 C11, 76 C12, 77 C13, 78 C14, 79 C15, 80 C16, 81 C17, 82 C18, 83 C19, 84 C20, 85 C21, 86 C22, 87 C23, 88 C24, 89 C25, 90 C26, 91 C27, 92 C28, 93 C29, 94 C30, 95 C31, 96 C32

## HCPL181
designator U?
value: HCPL181
footprint SOIC4
pins: 1 +, 2 -, 3 E, 4 C

## HCPL0300
designator U?
value: HCPL0300
footprint DIP8_300mil
footprint SOIC8
pins: 2 A, 3 C, 5 GND, 6 Vout, 7 RL, 8 VCC

## HCPL0530
designator U?
value: HCPL0530
footprint SOIC8
pins: 1 +V0, 2 -V0, 3 -V1, 4 +V1, 5 GND, 6 V1out, 7 V0out, 8 VCC

## HCPL2300
designator U?
value: HCPL2300
footprint DIP8_300mil
pins: 2 A, 3 C, 5 GND, 6 Vout, 7 RL, 8 VCC

## HCPL-0534
designator DA?
value: HCPL-0534
footprint soic8
pins: 1 A1 (power), 2 C1, 3 C2, 4 A2 (power), 5 GND (power), 6 VO2, 7 VO1, 8 VCC (power)
text: ISO

## HR911105A
designator J?
footprint HR911105A
pins: 1 TD+, 2 TD-, 3 RD+, 4 TCT, 5 TCT, 6 RD-, 9 LEDA+, 10 LEDA-, 11 LEDB-, 12 LEDB+, 13 GND, 14 GND

## HR911105A - ГОСТ
designator A?
footprint HR911105A
pins: 1 TD+, 2 TD-, 3 RD+, 4 TCT, 5 TCT, 6 RD-, 9 LEDA+, 10 LEDA-, 11 LEDB-, 12 LEDB+, 13 GND, 14 GND
text: Конт.; Цепь; J8; J7; J6; RX-; J5; J4; J3; RX+; J2; TX-; J1; TX+

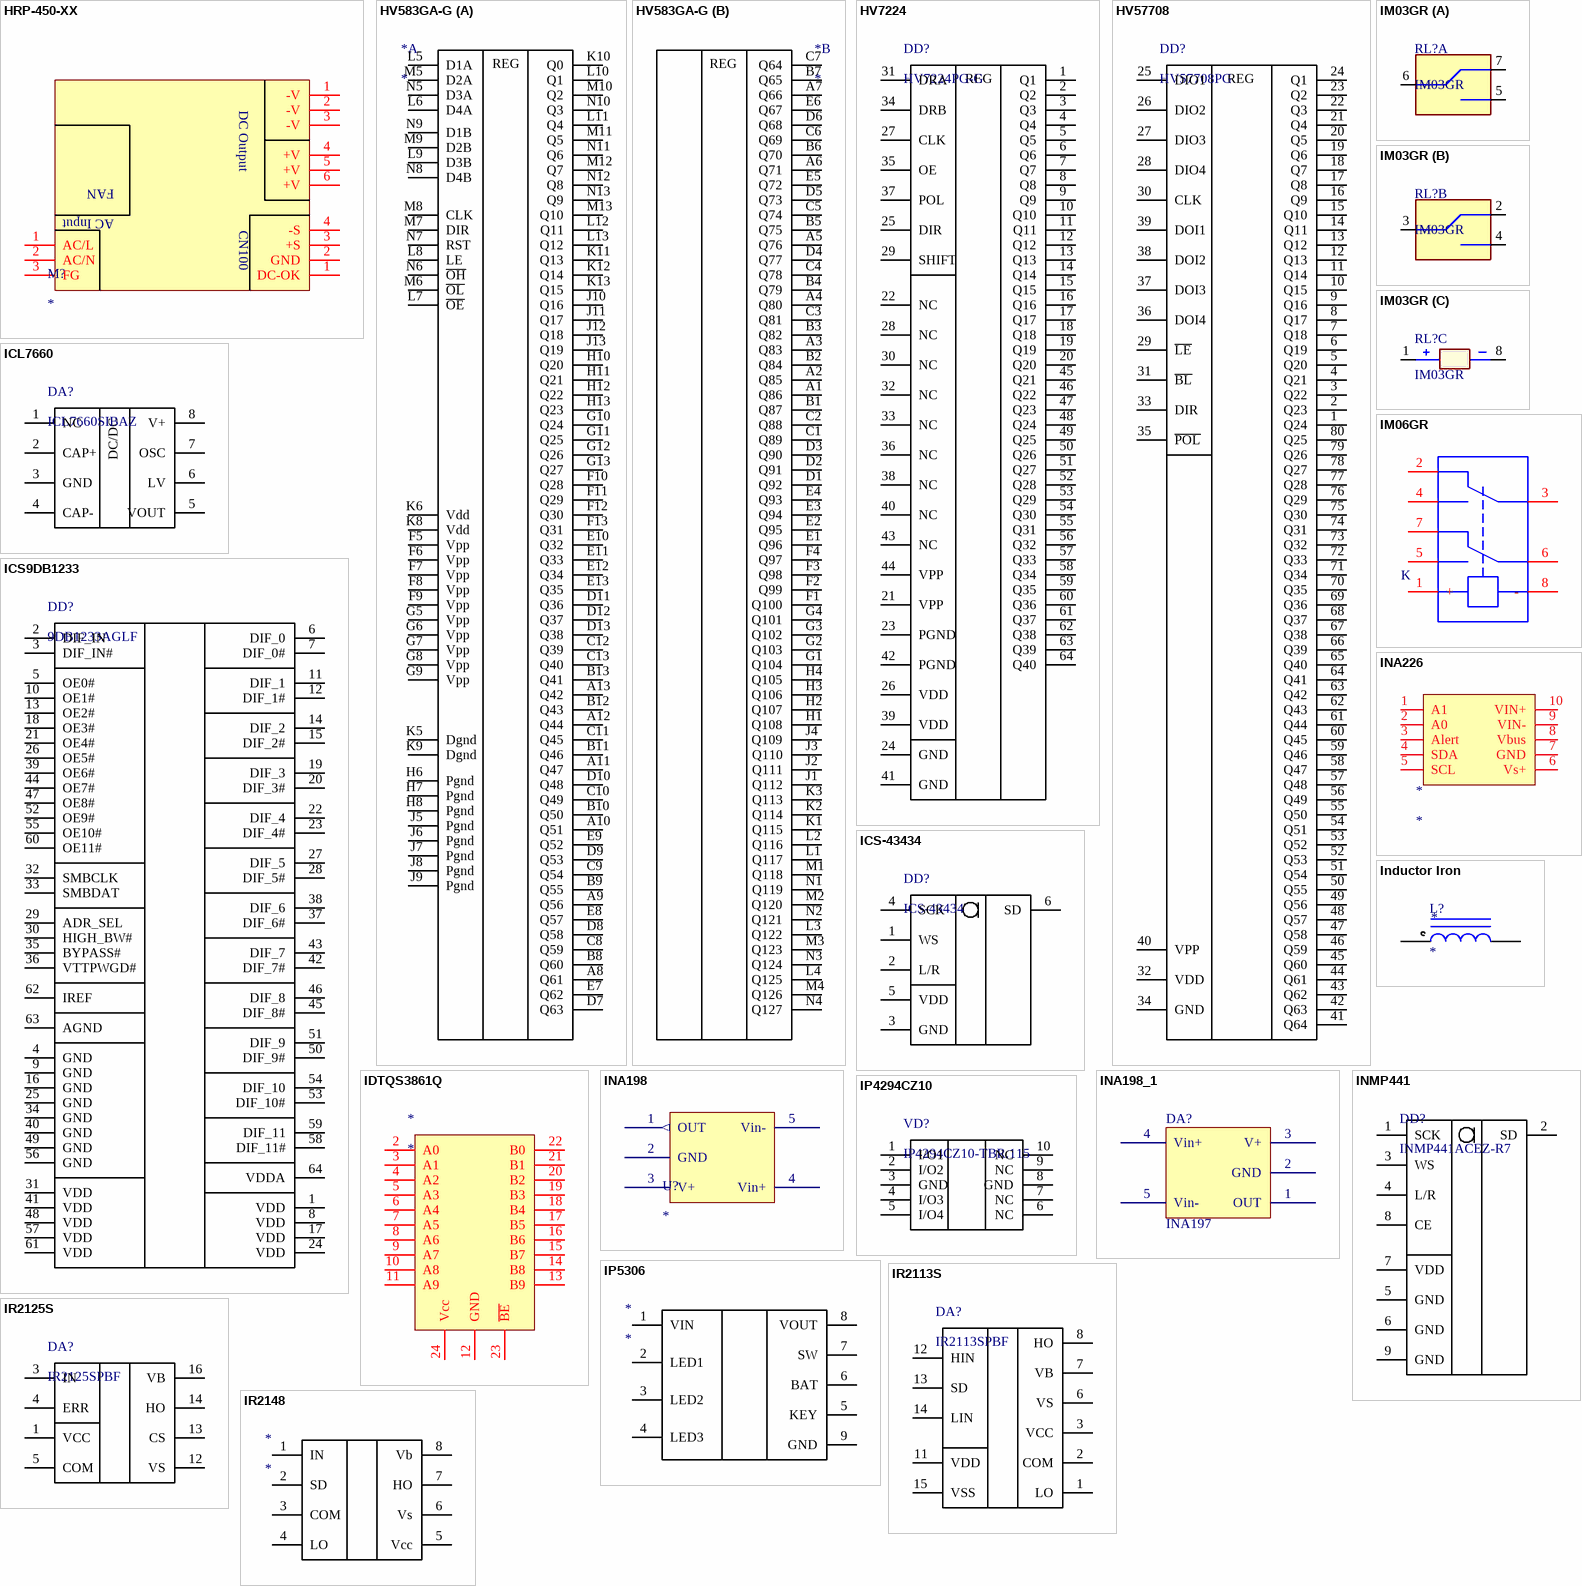
[diagram p22: symbols HRP-450-XX to IR2148]

## HRP-450-XX
designator M?
pins: 1 AC/L, 1 -V, 1 DC-OK, 2 AC/N, 2 -V, 2 GND, 3 FG, 3 -V, 3 +S, 4 +V, 4 -S, 5 +V, 6 +V
text: DC Output; FAN; AC Input; CN100

## HV583GA-G
designator *
part A pins: A8 Q61, A9 Q56, A10 Q51, A11 Q47, A12 Q44, A13 Q42, B8 Q60, B9 Q55, B10 Q50, B11 Q46, B12 Q43, B13 Q41, C8 Q59, C9 Q54, C10 Q49, C11 Q45, C12 Q39, C13 Q40, D7 Q63, D8 Q58, D9 Q53, D10 Q48, D11 Q36, D12 Q37, D13 Q38, E7 Q62, E8 Q57, E9 Q52, E10 Q32, E11 Q33, E12 Q34 "E12", E13 Q35, F5 Vpp, F6 Vpp, F7 Vpp, F8 Vpp, F9 Vpp, F10 Q28, F11 Q29, F12 Q30, F13 Q31, G5 Vpp, G6 Vpp, G7 Vpp, G8 Vpp, G9 Vpp, G10 Q24, G11 Q25, G12 Q26, G13 Q27, H6 Pgnd, H7 Pgnd, H8 Pgnd, H10 Q20, H11 Q21, H12 Q22, H13 Q23, J5 Pgnd, J6 Pgnd, J7 Pgnd, J8 Pgnd, J9 Pgnd, J10 Q16, J11 Q17, J12 Q18, J13 Q19, K5 Dgnd, K6 Vdd, K8 Vdd, K9 Dgnd, K10 Q0, K11 Q13, K12 Q14, K13 Q15, L5 D1A, L6 D4A, L7 ~{OE}, L8 LE, L9 D3B, L10 Q1, L11 Q4, L12 Q11, L13 Q12, M5 D2A, M6 ~{OL}, M7 DIR, M8 CLK, M9 D2B, M10 Q2, M11 Q5, M12 Q7, M13 Q10, N5 D3A, N6 ~{OH}, N7 RST, N8 D4B, N9 D1B, N10 Q3, N11 Q6, N12 Q8, N13 Q9
part B pins: A1 Q86, A2 Q85, A3 Q83, A4 Q80, A5 Q76, A6 Q71, A7 Q66, B1 Q87, B2 Q84, B3 Q82, B4 Q79, B5 Q75, B6 Q70, B7 Q65, C1 Q89, C2 Q88, C3 Q81, C4 Q78, C5 Q74, C6 Q69, C7 Q64, D1 Q92, D2 Q91, D3 Q90, D4 Q77, D5 Q73, D6 Q68, E1 Q96, E2 Q95, E3 Q94, E4 Q93, E5 Q72, E6 Q67, F1 Q100, F2 Q99, F3 Q98 "E12", F4 Q97, G1 Q104, G2 Q103, G3 Q102, G4 Q101, H1 Q108, H2 Q107, H3 Q106, H4 Q105, J1 Q112, J2 Q111, J3 Q110, J4 Q109, K1 Q115, K2 Q114, K3 Q113, L1 Q117, L2 Q116, L3 Q122, L4 Q125, M1 Q118, M2 Q120, M3 Q123, M4 Q126, N1 Q119, N2 Q121, N3 Q124, N4 Q127
part A text: REG
part B text: REG

## HV7224
designator DD?, comment HV7224PG-G
40-Channel  Symmetric Row Driver; value: HV7224PG-G; rus_value: HV7224PG-G
footprint PQFP-64 (Footprint not found)
pins: 1 Q1, 2 Q2, 3 Q3, 4 Q4, 5 Q5, 6 Q6, 7 Q7, 8 Q8, 9 Q9, 10 Q10, 11 Q11, 12 Q12, 13 Q13, 14 Q14, 15 Q15, 16 Q16, 17 Q17, 18 Q18, 19 Q19, 20 Q20, 21 VPP, 22 NC, 23 PGND, 24 GND, 25 DIR, 26 VDD, 27 CLK, 28 NC, 29 SHIFT, 30 NC, 31 DRA, 32 NC, 33 NC, 34 DRB, 35 OE, 36 NC, 37 POL, 38 NC, 39 VDD, 40 NC, 41 GND, 42 PGND, 43 NC, 44 VPP, 45 Q21, 46 Q22, 47 Q23, 48 Q24, 49 Q25, 50 Q26, 51 Q27, 52 Q28, 53 Q29, 54 Q30, 55 Q31, 56 Q32, 57 Q33, 58 Q34, 59 Q35, 60 Q36, 61 Q37, 62 Q38, 63 Q39, 64 Q40
text: REG

## HV57708
designator DD?, comment HV57708PG
value: HV57708PG; rus_value: HV57708PG
pins: 1 Q24, 2 Q23, 3 Q22, 4 Q21, 5 Q20, 6 Q19, 7 Q18, 8 Q17, 9 Q16, 10 Q15, 11 Q14, 12 Q13, 13 Q12, 14 Q11, 15 Q10, 16 Q9, 17 Q8, 18 Q7, 19 Q6, 20 Q5, 21 Q4, 22 Q3, 23 Q2, 24 Q1, 25 DIO1, 26 DIO2, 27 DIO3, 28 DIO4, 29 ~{LE}, 30 CLK, 31 ~{BL}, 32 VDD, 33 DIR, 34 GND, 35 ~{POL}, 36 DOI4, 37 DOI3, 38 DOI2, 39 DOI1, 40 VPP, 41 Q64, 42 Q63, 43 Q62, 44 Q61, 45 Q60, 46 Q59, 47 Q58, 48 Q57, 49 Q56, 50 Q55, 51 Q54, 52 Q53, 53 Q52, 54 Q51, 55 Q50, 56 Q49, 57 Q48, 58 Q47, 59 Q46, 60 Q45, 61 Q44, 62 Q43, 63 Q42, 64 Q41, 65 Q40, 66 Q39, 67 Q38, 68 Q37, 69 Q36, 70 Q35, 71 Q34, 72 Q33, 73 Q32, 74 Q31, 75 Q30, 76 Q29, 77 Q28, 78 Q27, 79 Q26, 80 Q25
text: REG

## ICL7660
designator DA?, comment ICL7660SIBAZ
value: ICL7660SIBAZ
footprint SO8 (SOIC, 8-Leads, Body 4.9x3.9mm, Pitch 1.27mm, IPC Medium Density)
pins: 1 NC, 2 CAP+, 3 GND, 4 CAP-, 5 VOUT, 6 LV, 7 OSC, 8 V+
text: DC/DC

## ICS9DB1233
designator DD?, comment 9DB1233AGLF
value: 9DB1233AGLF
footprint TSSOP64 (Footprint not found)
pins: 1 VDD, 2 DIF_IN, 3 DIF_IN#, 4 GND, 5 OE0#, 6 DIF_0, 7 DIF_0#, 8 VDD, 9 GND, 10 OE1#, 11 DIF_1, 12 DIF_1#, 13 OE2#, 14 DIF_2, 15 DIF_2#, 16 GND, 17 VDD, 18 OE3#, 19 DIF_3, 20 DIF_3#, 21 OE4#, 22 DIF_4, 23 DIF_4#, 24 VDD, 25 GND, 26 OE5#, 27 DIF_5, 28 DIF_5#, 29 ADR_SEL, 30 HIGH_BW#, 31 VDD, 32 SMBCLK, 33 SMBDAT, 34 GND, 35 BYPASS#, 36 VTTPWGD#, 37 DIF_6#, 38 DIF_6, 39 OE6#, 40 GND, 41 VDD, 42 DIF_7#, 43 DIF_7, 44 OE7#, 45 DIF_8#, 46 DIF_8, 47 OE8#, 48 VDD, 49 GND, 50 DIF_9#, 51 DIF_9, 52 OE9#, 53 DIF_10#, 54 DIF_10, 55 OE10#, 56 GND, 57 VDD, 58 DIF_11#, 59 DIF_11, 60 OE11#, 61 VDD, 62 IREF, 63 AGND, 64 VDDA

## ICS‐43434
designator DD?
Multi‐Mode Microphone with I2S Digital Output; value: ICS‐43434
pins: 1 WS, 2 L/R, 3 GND, 4 SCK, 5 VDD, 6 SD

## IDTQS3861Q
designator *
footprint QSOP24_R23W_R34L_R025PTCH
pins: 2 A0, 3 A1, 4 A2, 5 A3, 6 A4, 7 A5, 8 A6, 9 A7, 10 A8, 11 A9, 12 GND, 13 B9, 14 B8, 15 B7, 16 B6, 17 B5, 18 B4, 19 B3, 20 B2, 21 B1, 22 B0, 23 ~{BE}, 24 Vcc

## IM03GR
designator RL?
footprint IM06GR
part A pins: 5 A11, 6 A9, 7 A10
part B pins: 2 A13, 3 A12, 4 A14
part C pins: 1 +, 8 -

## IM06GR
designator K  (value not drawn)
footprint TYCO_2C
pins: 1 +, 2, 3 1C, 4, 5, 6 2C, 7, 8 -

## INA198
designator U?
value: *
footprint SOT-23-5 (SOT-23 5pin)
pins: 1 OUT (out), 2 GND, 3 V+, 4 Vin+, 5 Vin-

## INA198_1
designator DA?, comment INA197
footprint SOT-23-5 (SOT-23 5pin)
pins: 1 OUT, 2 GND, 3 V+, 4 Vin+, 5 Vin-

## INA226
designator *
footprint MSOP10
pins: 1 A1, 2 A0, 3 Alert, 4 SDA, 5 SCL, 6 Vs+, 7 GND, 8 Vbus, 9 VIN-, 10 VIN+

## Inductor Iron
designator L?
Magnetic-Core Inductor; Published: 24-Mar-1999; LatestRevisionDate: 17-Jul-2002; LatestRevisionNote: Re-released for DXP Platform.; PackageReference: AXIAL-0.9; Publisher: Altium Limited; PackageDescription: Axial Device, Thru-Hole; 2 Leads; 0.9 in Pin Spacing; Value: *
simulation model INDUCTOR (Inductor)
signal-integrity model Inductor Iron
footprint RLB1314 (RLB1314 Inductor)
footprint RLB1314 (RLB1314 Inductor)
footprint RLB0914 (RLB1314 Inductor)
footprint SMD1812 (Chip Capacitor, Body 4.5x3.2mm, IPC High Density)
footprint RLB0912-Bourns
pins: 1, 2

## INMP441
designator DD?, comment INMP441ACEZ-R7
Microphone with Bottom Port and I  2  S Digital Output; value: INMP441ACEZ-R7
pins: 1 SCK, 2 SD, 3 WS, 4 L/R, 5 GND, 6 GND, 7 VDD, 8 CE, 9 GND

## IP4294CZ10
designator VD?, comment IP4294CZ10-TBR.115
ESD suppressor; value: IP4294CZ10-TBR.115
footprint SOT1176-1 (Footprint not found)
pins: 1 I/O1, 2 I/O2, 3 GND, 4 I/O3, 5 I/O4, 6 NC, 7 NC, 8 GND, 9 NC, 10 NC

## IP5306
designator *
value: IP5306
footprint eSOP-8 (SOIC, 8-Leads, Body 4.9x3.9mm, Pitch 1.27mm, IPC Medium Density)
pins: 1 VIN, 2 LED1, 3 LED2, 4 LED3, 5 KEY, 6 BAT, 7 SW, 8 VOUT, 9 GND

## IR2113S
designator DA?, comment IR2113SPBF
value: IR2113SPBF
footprint SO16DW
pins: 1 LO, 2 COM, 3 VCC, 6 VS, 7 VB, 8 HO, 11 VDD, 12 HIN, 13 SD, 14 LIN, 15 VSS

## IR2125S
designator DA?, comment IR2125SPBF
value: IR2125SPBF
footprint SO16DW
pins: 1 VCC, 3 IN, 4 ERR, 5 COM, 12 VS, 13 CS, 14 HO, 16 VB

## IR2148
designator *
pins: 1 IN, 2 SD, 3 COM, 4 LO, 5 Vcc, 6 Vs, 7 HO, 8 Vb

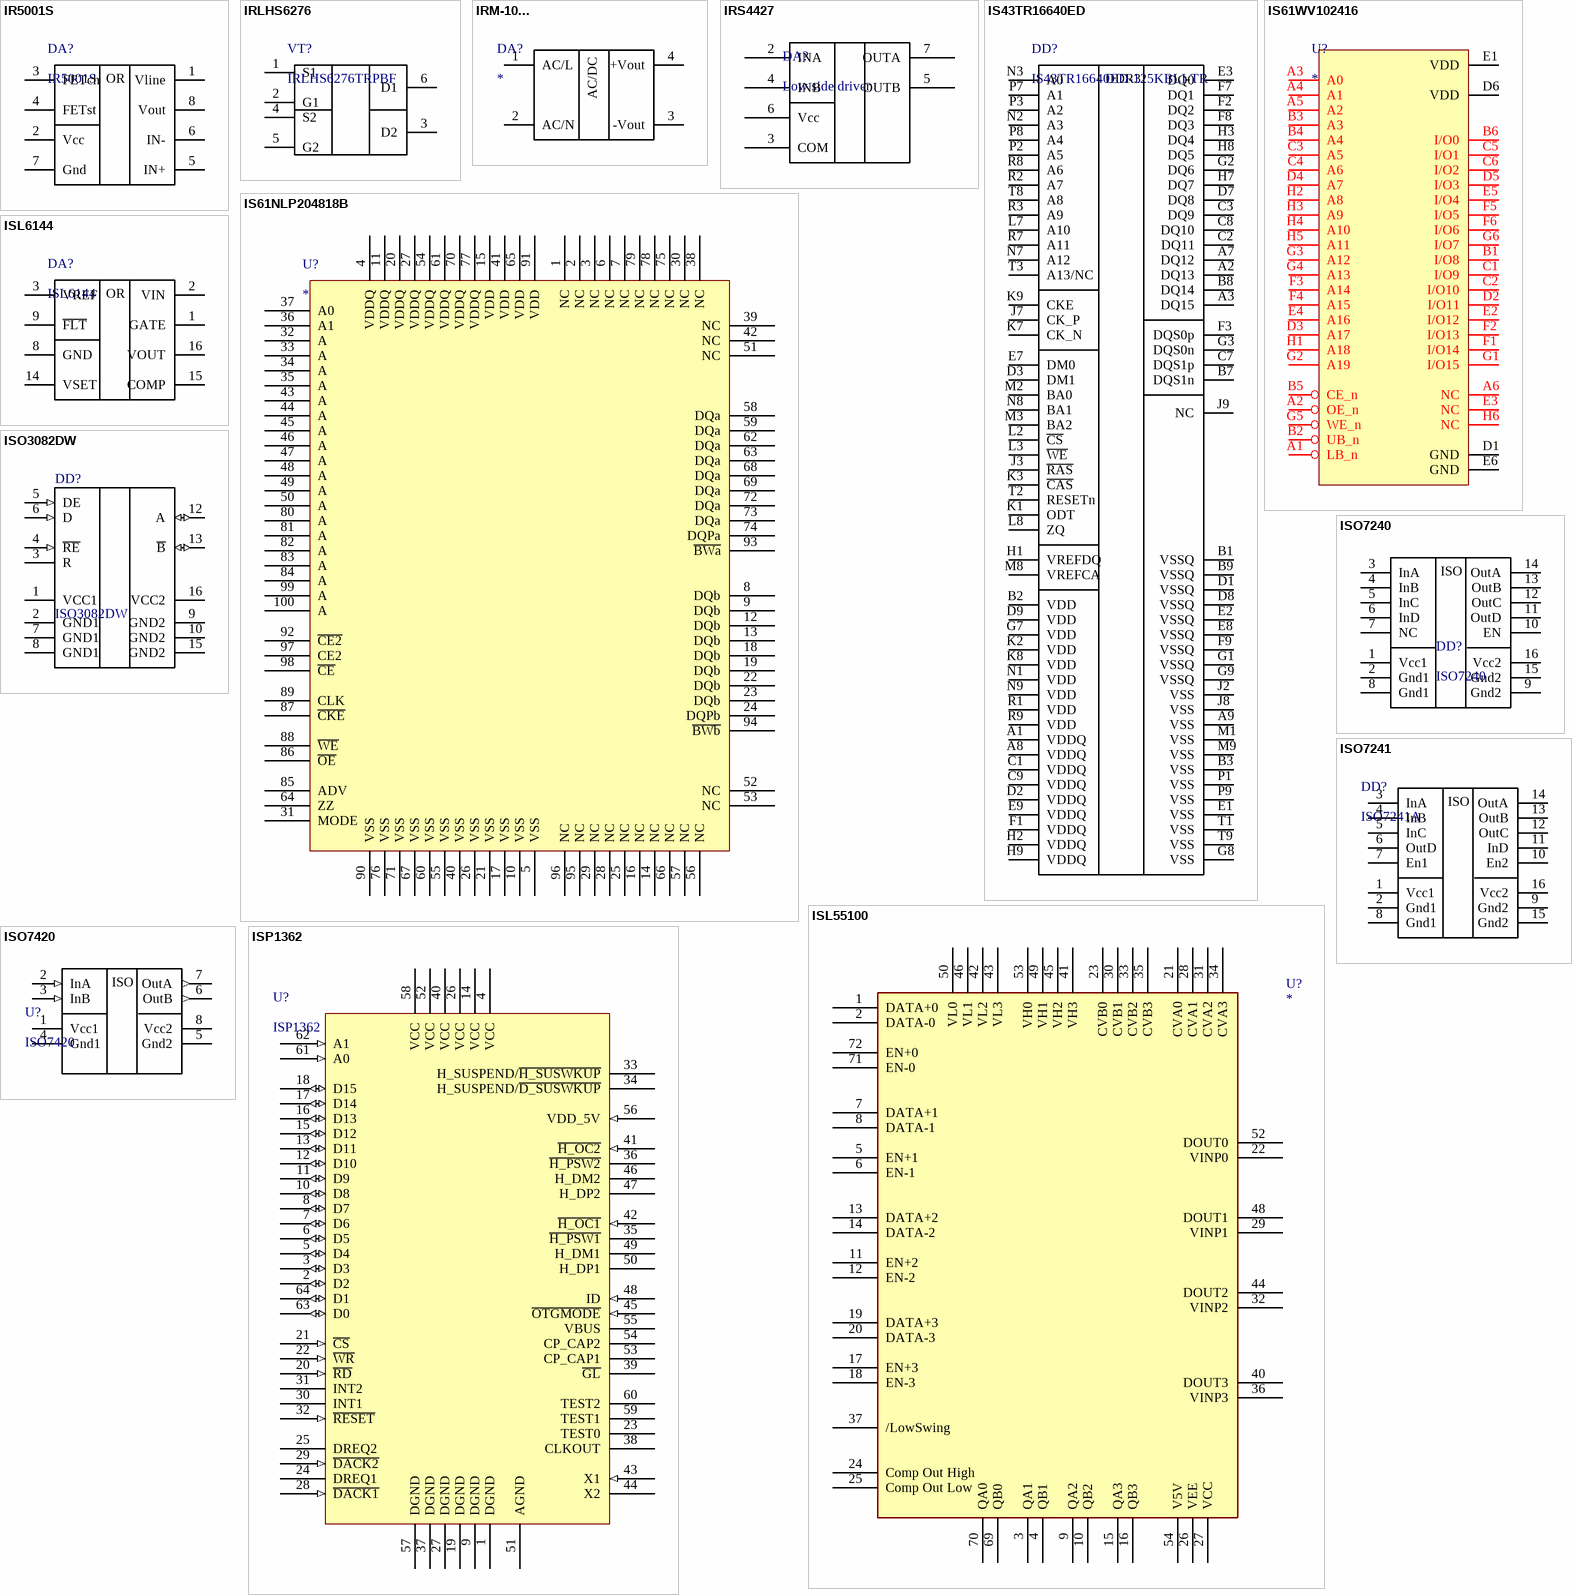
[diagram p23: symbols IR5001S to ISP1362]

## IR5001S
designator DA?
Active ORing controller; value: IR5001S
footprint SO8 (SOIC, 8-Leads, Body 4.9x3.9mm, Pitch 1.27mm, IPC Medium Density)
pins: 1 Vline, 2 Vcc, 3 FETch, 4 FETst, 5 IN+, 6 IN-, 7 Gnd, 8 Vout
text: OR

## IRLHS6276
designator VT?, comment IRLHS6276TRPBF
HEXFET® Power MOSFET; value: IRLHS6276TRPBF
pins: 1 S1, 2 G1, 3 D2, 4 S2, 5 G2, 6 D1

## IRM-10...
designator DA?
AC-DC MW
pins: 1 AC/L, 2 AC/N, 3 -Vout, 4 +Vout
text: AC/DC

## IRS4427
designator DA?, comment Low side driver
value: IRS4427SPBF (INFIN)
footprint SO8_PAD (SOIC, 8-Leads, Body 4.9x3.9mm, Pitch 1.27mm, IPC Medium Density)
pins: 2 INA, 3 COM, 4 INB, 5 OUTB, 6 Vcc, 7 OUTA

## IS43TR16640ED
designator DD?, comment IS43TR16640ED-125KBLI-TR
DDR3 SDRAM; rus_value: IS43TR16640ED-125KBLI-TR; value: IS43TR16640ED-125KBLI-TR
pins: A1 VDDQ, A2 DQ13, A3 DQ15, A7 DQ12, A8 VDDQ, A9 VSS, B1 VSSQ, B2 VDD, B3 VSS, B7 DQS1n, B8 DQ14, B9 VSSQ, C1 VDDQ, C2 DQ11, C3 DQ9, C7 DQS1p, C8 DQ10, C9 VDDQ, D1 VSSQ, D2 VDDQ, D3 DM1, D7 DQ8, D8 VSSQ, D9 VDD, E1 VSS, E2 VSSQ, E3 DQ0, E7 DM0, E8 VSSQ, E9 VDDQ, F1 VDDQ, F2 DQ2, F3 DQS0p, F7 DQ1, F8 DQ3, F9 VSSQ, G1 VSSQ, G2 DQ6, G3 DQS0n, G7 VDD, G8 VSS, G9 VSSQ, H1 VREFDQ, H2 VDDQ, H3 DQ4, H7 DQ7, H8 DQ5, H9 VDDQ, J2 VSS, J3 ~{RAS}, J7 CK_P, J8 VSS, J9 NC, K1 ODT, K2 VDD, K3 ~{CAS}, K7 CK_N, K8 VDD, K9 CKE, L2 ~{CS}, L3 ~{WE}, L7 A10, L8 ZQ, M1 VSS, M2 BA0, M3 BA2, M8 VREFCA, M9 VSS, N1 VDD, N2 A3, N3 A0, N7 A12, N8 BA1, N9 VDD, P1 VSS, P2 A5, P3 A2, P7 A1, P8 A4, P9 VSS, R1 VDD, R2 A7, R3 A9, R7 A11, R8 A6, R9 VDD, T1 VSS, T2 RESETn, T3 A13/NC, T8 A8, T9 VSS
text: DDR3

## IS61NLP204818B
designator U?
value: IS61NLP204818B
footprint TQFP100
pins: 1 NC, 2 NC, 3 NC, 4 VDDQ, 5 VSS, 6 NC, 7 NC, 8 DQb, 9 DQb, 10 VSS, 11 VDDQ, 12 DQb, 13 DQb, 14 NC, 15 VDD, 16 NC, 17 VSS, 18 DQb, 19 DQb, 20 VDDQ, 21 VSS, 22 DQb, 23 DQb, 24 DQPb, 25 NC, 26 VSS, 27 VDDQ, 28 NC, 29 NC, 30 NC, 31 MODE, 32 A, 33 A, 34 A, 35 A, 36 A1, 37 A0, 38 NC, 39 NC, 40 VSS, 41 VDD, 42 NC, 43 A, 44 A, 45 A, 46 A, 47 A, 48 A, 49 A, 50 A, 51 NC, 52 NC, 53 NC, 54 VDDQ, 55 VSS, 56 NC, 57 NC, 58 DQa, 59 DQa, 60 VSS, 61 VDDQ, 62 DQa, 63 DQa, 64 ZZ, 65 VDD, 66 NC, 67 VSS, 68 DQa, 69 DQa, 70 VDDQ, 71 VSS, 72 DQa, 73 DQa, 74 DQPa, 75 NC, 76 VSS, 77 VDDQ, 78 NC, 79 NC, 80 A, 81 A, 82 A, 83 A, 84 A, 85 ADV, 86 ~{OE}, 87 ~{CKE}, 88 ~{WE}, 89 CLK, 90 VSS, 91 VDD, 92 ~{CE2}, 93 ~{BWa}, 94 ~{BWb}, 95 NC, 96 NC, 97 CE2, 98 ~{CE}, 99 A, 100 A

## IS61WV102416
designator U?
pins: A1 LB_n, A2 OE_n, A3 A0, A4 A1, A5 A2, A6 NC, B1 I/O8, B2 UB_n, B3 A3, B4 A4, B5 CE_n, B6 I/O0, C1 I/O9, C2 I/O10, C3 A5, C4 A6, C5 I/O1, C6 I/O2, D1 GND, D2 I/O11, D3 A17, D4 A7, D5 I/O3, D6 VDD (power), E1 VDD (power), E2 I/O12, E3 NC, E4 A16, E5 I/O4, E6 GND, F1 I/O14, F2 I/O13, F3 A14, F4 A15, F5 I/O5, F6 I/O6, G1 I/O15, G2 A19, G3 A12, G4 A13, G5 WE_n, G6 I/O7, H1 A18, H2 A8, H3 A9, H4 A10, H5 A11, H6 NC

## ISL6144
designator DA?
value: ISL6144
pins: 1 GATE, 2 VIN, 3 VREF, 8 GND, 9 ~{FLT}, 14 VSET, 15 COMP, 16 VOUT
text: OR

## ISL55100
designator U?
footprint QFN72
pins: 1 DATA+0, 2 DATA-0, 3 QA1, 4 QB1, 5 EN+1, 6 EN-1, 7 DATA+1, 8 DATA-1, 9 QA2, 10 QB2, 11 EN+2, 12 EN-2, 13 DATA+2, 14 DATA-2, 15 QA3, 16 QB3, 17 EN+3, 18 EN-3, 19 DATA+3, 20 DATA-3, 21 CVA0, 22 VINP0, 23 CVB0, 24 Comp Out High, 25 Comp Out Low, 26 VEE, 27 VCC, 28 CVA1, 29 VINP1, 30 CVB1, 31 CVA2, 32 VINP2, 33 CVB2, 34 CVA3, 35 CVB3, 36 VINP3, 37 /LowSwing, 40 DOUT3, 41 VH3, 42 VL2, 43 VL3, 44 DOUT2, 45 VH2, 46 VL1, 48 DOUT1, 49 VH1, 50 VL0, 52 DOUT0, 53 VH0, 54 V5V, 69 QB0, 70 QA0, 71 EN-0, 72 EN+0

## ISO3082DW
designator DD?
Differential Bus Transceiver; Note: Receiver Hysteresis of 50mV Typical; Published: 15-May-2002; LatestRevisionDate: 13-Apr-2006; LatestRevisionNote: IPC-7351 Footprint Added.; DatasheetVersion: Aug-1989; PackageVersion: Jan-1998; PackageReference: D008; Publisher: Altium Limited; PackageDescription: 8-Pin Small Outline Integrated Circuit 1.27 mm Pitch; Code_IPC: SOIC127P600-8; ComponentLink1Description: Manufacturer Link; ComponentLink1URL: http://www.ti.com/; ComponentLink2Description: Datasheet; ComponentLink2URL: http://www-s.ti.com/sc/ds/sn75176a.pdf
footprint SO16_WB (16-Lead SOIC (wide body))
pins: 1 VCC1 (power), 2 GND1 (power), 3 R (hiz), 4 ~{RE} (in), 5 DE (in), 6 D (in), 7 GND1 (power), 8 GND1 (power), 9 GND2 (power), 10 GND2 (power), 12 A (io), 13 ~{B} (io), 15 GND2 (power), 16 VCC2 (power)

## ISO7240
designator DD?
value: ISO7240
footprint SO16_WB (16-Lead SOIC (wide body))
pins: 1 Vcc1, 2 Gnd1, 3 InA, 4 InB, 5 InC, 6 InD, 7 NC, 8 Gnd1, 9 Gnd2, 10 EN, 11 OutD, 12 OutC, 13 OutB, 14 OutA, 15 Gnd2, 16 Vcc2
text: ISO

## ISO7241
designator DD?, comment ISO7241A
1-Mbps  QUAD  DIGITAL  ISOLATORS; value: ISO7241A
footprint SO16DW
pins: 1 Vcc1, 2 Gnd1, 3 InA, 4 InB, 5 InC, 6 OutD, 7 En1, 8 Gnd1, 9 Gnd2, 10 En2, 11 InD, 12 OutC, 13 OutB, 14 OutA, 15 Gnd2, 16 Vcc2
text: ISO

## ISO7420
designator U?
value: ISO7420
footprint SO8 (SOIC, 8-Leads, Body 4.9x3.9mm, Pitch 1.27mm, IPC Medium Density)
pins: 1 Vcc1 (power), 2 InA (in), 3 InB (in), 4 Gnd1 (power), 5 Gnd2 (power), 6 OutB (out), 7 OutA (out), 8 Vcc2 (power)
text: ISO

## ISP1362
designator U?
value: ISP1362
pins: 1 DGND, 2 D2 (io), 3 D3 (io), 4 VCC, 5 D4 (io), 6 D5 (io), 7 D6 (io), 8 D7 (io), 9 DGND, 10 D8 (io), 11 D9 (io), 12 D10 (io), 13 D11 (io), 14 VCC, 15 D12 (io), 16 D13 (io), 17 D14 (io), 18 D15 (io), 19 DGND, 20 ~{RD} (in), 21 ~{CS} (in), 22 ~{WR} (in), 23 TEST0, 24 DREQ1, 25 DREQ2, 26 VCC, 27 DGND, 28 ~{DACK1} (in), 29 ~{DACK2} (in), 30 INT1, 31 INT2, 32 ~{RESET} (in), 33 H_SUSPEND/~{H_SUSWKUP}, 34 H_SUSPEND/~{D_SUSWKUP}, 35 ~{H_PSW1}, 36 ~{H_PSW2}, 37 DGND, 38 CLKOUT, 39 ~{GL}, 40 VCC, 41 ~{H_OC2} (in), 42 ~{H_OC1} (in), 43 X1 (in), 44 X2, 45 ~{OTGMODE} (in), 46 H_DM2, 47 H_DP2, 48 ID (in), 49 H_DM1, 50 H_DP1, 51 AGND, 52 VCC, 53 CP_CAP1, 54 CP_CAP2, 55 VBUS, 56 VDD_5V (in), 57 DGND, 58 VCC, 59 TEST1, 60 TEST2, 61 A0 (in), 62 A1 (in), 63 D0 (io), 64 D1 (io)

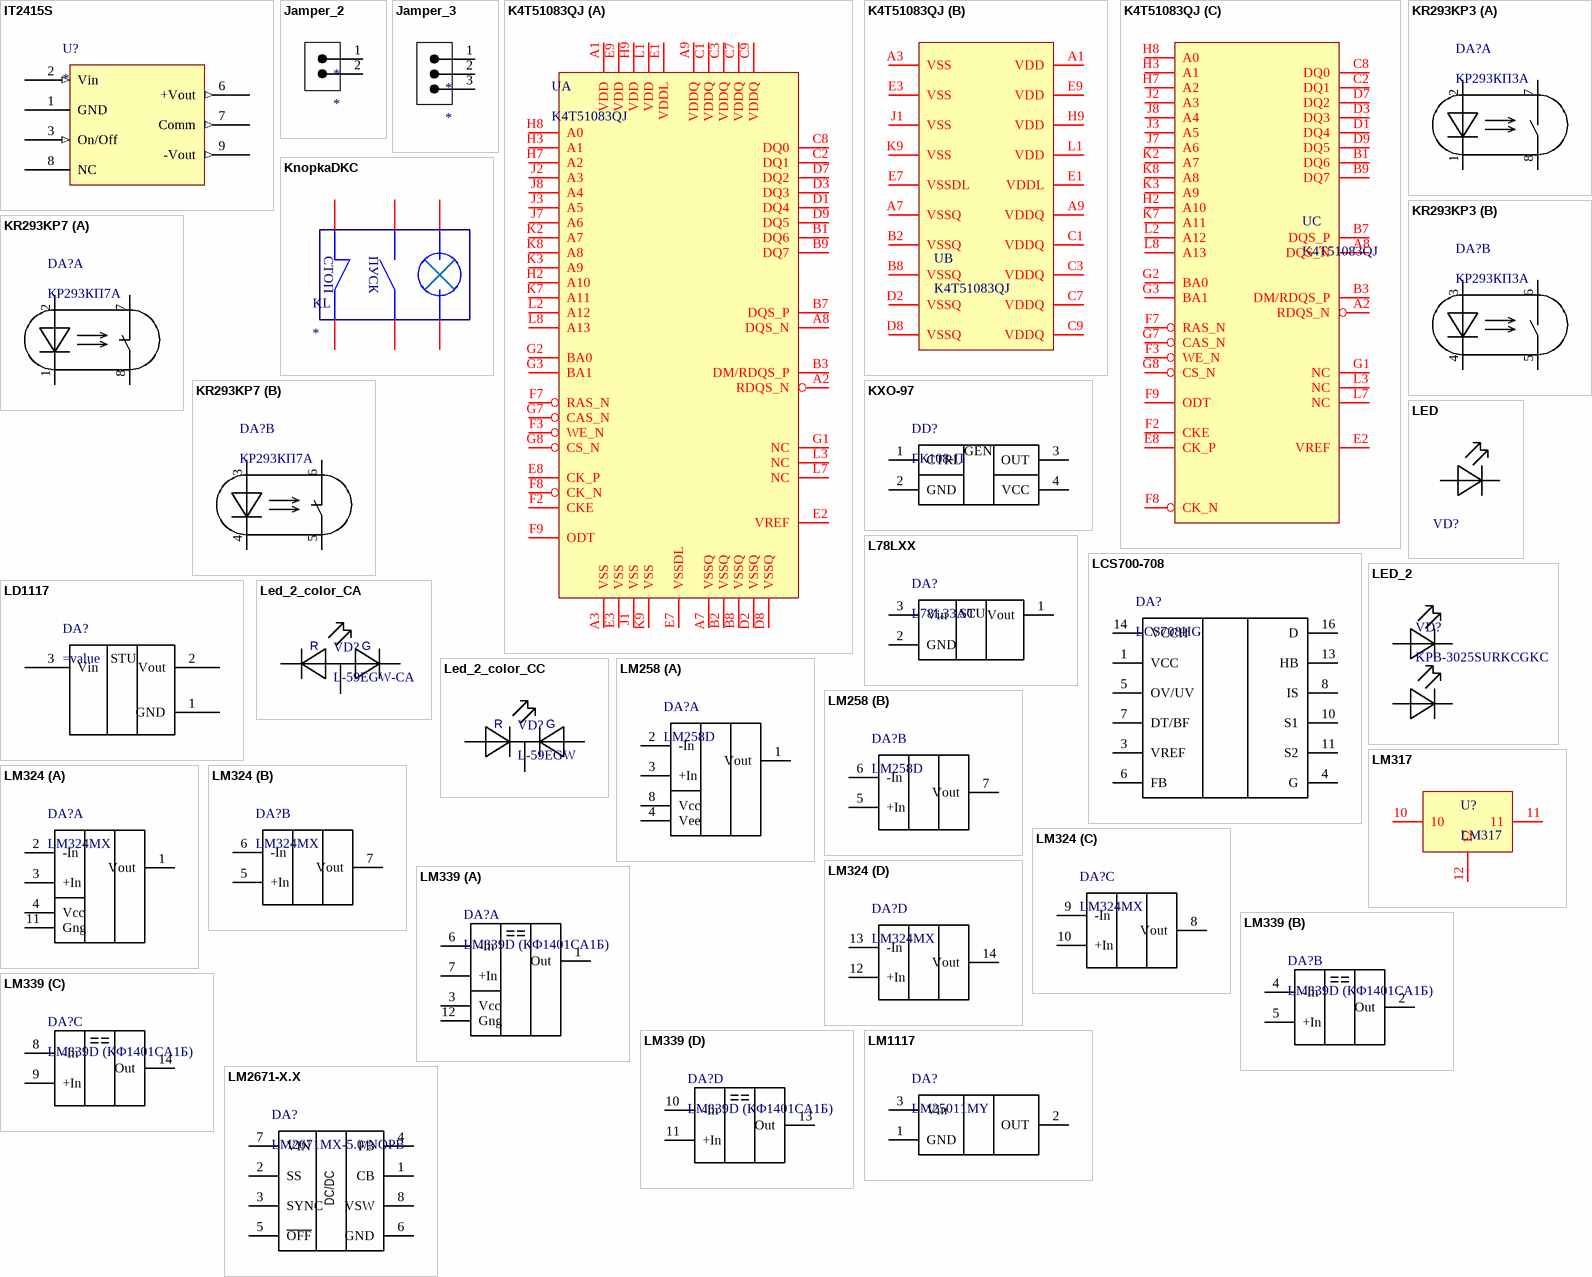
[diagram p24: symbols IT2415S to LM2671-X.X]

## IT2415S
designator U?
DC / DC isolated; value: IT2415S
footprint Model Name (Footprint not found)
footprint IT2415S
pins: 1 GND, 2 Vin (in), 3 On/Off (in), 6 +Vout (out), 7 Comm (out), 8 NC, 9 -Vout (out)

## Jamper_2
designator *
pins: 1, 2

## Jamper_3
designator *
pins: 1, 2, 3

## K4T51083QJ
designator U
footprint DDR2_BGA
part A pins: A1 VDD, A2 RDQS_N, A3 VSS, A7 VSSQ, A8 DQS_N, A9 VDDQ, B1 DQ6, B2 VSSQ, B3 DM/RDQS_P, B7 DQS_P, B8 VSSQ, B9 DQ7, C1 VDDQ, C2 DQ1, C3 VDDQ, C7 VDDQ, C8 DQ0, C9 VDDQ, D1 DQ4, D2 VSSQ, D3 DQ3, D7 DQ2, D8 VSSQ, D9 DQ5, E1 VDDL, E2 VREF, E3 VSS, E7 VSSDL, E8 CK_P, E9 VDD, F2 CKE, F3 WE_N, F7 RAS_N, F8 CK_N, F9 ODT, G1 NC, G2 BA0, G3 BA1, G7 CAS_N, G8 CS_N, H2 A10, H3 A1, H7 A2, H8 A0, H9 VDD, J1 VSS, J2 A3, J3 A5, J7 A6, J8 A4, K2 A7, K3 A9, K7 A11, K8 A8, K9 VSS, L1 VDD, L2 A12, L3 NC, L7 NC, L8 A13
part B pins: A1 VDD, A3 VSS, A7 VSSQ, A9 VDDQ, B2 VSSQ, B8 VSSQ, C1 VDDQ, C3 VDDQ, C7 VDDQ, C9 VDDQ, D2 VSSQ, D8 VSSQ, E1 VDDL, E3 VSS, E7 VSSDL, E9 VDD, H9 VDD, J1 VSS, K9 VSS, L1 VDD
part C pins: A2 RDQS_N, A8 DQS_N, B1 DQ6, B3 DM/RDQS_P, B7 DQS_P, B9 DQ7, C2 DQ1, C8 DQ0, D1 DQ4, D3 DQ3, D7 DQ2, D9 DQ5, E2 VREF, E8 CK_P, F2 CKE, F3 WE_N, F7 RAS_N, F8 CK_N, F9 ODT, G1 NC, G2 BA0, G3 BA1, G7 CAS_N, G8 CS_N, H2 A10, H3 A1, H7 A2, H8 A0, J2 A3, J3 A5, J7 A6, J8 A4, K2 A7, K3 A9, K7 A11, K8 A8, L2 A12, L3 NC, L7 NC, L8 A13

## KnopkaDKC
designator KL
pins: ?1, ?2, ?3, ?4, ?5, ?6
text: СТОП; ПУСК

## KR293KP3
designator DA?, comment КР293КП3А
High Speed Optocoupler, 10 Mbd; value: КР293КП3А
footprint DIP8_300mil
part A pins: 1 -, 2 +, 7 C, 8 E
part B pins: 3 +, 4 -, 5 E, 6 C

## KR293KP7
designator DA?, comment КР293КП7А
High Speed Optocoupler, 10 Mbd; value: КР293КП7А
footprint DIP8_300mil
part A pins: 1 -, 2 +, 7 C, 8 E
part B pins: 3 +, 4 -, 5 E, 6 C

## KXO-97
designator DD?, comment ГК108-П
value: KXO-97V; rus_value: ГК108-П
pins: 1 CTRL, 2 GND, 3 OUT, 4 VCC
text: GEN

## L78LXX
designator DA?, comment L78L33AC
LDO; value1: L78L05ACUTR; value: L78L33AC
footprint SOT-89
pins: 1 Vout, 2 GND, 3 Vin
text: STU

## LCS700-708
designator DA?, comment LCS708HG
Integrated LLC Controller, High-Voltage  Power MOSFETs and Drivers; value: LCS708HG
pins: 1 VCC, 3 VREF, 4 G, 5 OV/UV, 6 FB, 7 DT/BF, 8 IS, 10 S1, 11 S2, 13 HB, 14 VCCH, 16 D

## LD1117
designator DA?
SOT223, 5V: LD1117S50C; SOT223, 3.3V: LD1117S33C
footprint SOT-223 (SOT-223/SC-73; 4 Leads; Body 6.7 x 7.3 mm, inc. leads (LxW max))
pins: 1 GND, 2 Vout (power), 3 Vin (power)
text: STU

## LED
designator VD?  (value not drawn)
Светодиод; led_green_3mm: FYL-3014GD (FORYARD); led_yellow_3mm: FYL-3014YD (FORYARD); LED, зеленый, 0805: KPT-2012SGC
footprint LED_5mm
footprint LED_0805
footprint LED_3mm
pins: A, K

## LED_2
designator VD?, comment KPB-3025SURKCGKC
value: KPB-3025SURKCGKC
footprint LED_3025 (Footprint not found)
pins: A1 A, A2 A, K1 K, K2 K

## Led_2_color_CA
designator VD?, comment L-59EGW-CA
Светодиод; value: L-59EGW-CA
footprint LED_5mm - bi_color
pins: 1 E, 2 C, 3 G
text: R

## Led_2_color_CC
designator VD?, comment L-59EGW
Светодиод; value: L-59EGW
footprint LED_5mm - bi_color
pins: 1 E, 2 A, 3 G
text: R

## LM258
designator DA?, comment LM258D
value: LM258D
footprint SO8 (SOIC, 8-Leads, Body 4.9x3.9mm, Pitch 1.27mm, IPC Medium Density)
part A pins: 1 Vout, 2 -In, 3 +In, 4 Vee, 8 Vcc
part B pins: 5 +In, 6 -In, 7 Vout

## LM317
designator U?
pins: 10, 11, 12

## LM324
designator DA?, comment LM324MX
value: LM324MX
footprint SOIC_N 16
part A pins: 1 Vout, 2 -In, 3 +In, 4 Vcc, 11 Gng
part B pins: 5 +In, 6 -In, 7 Vout
part C pins: 8 Vout, 9 -In, 10 +In
part D pins: 12 +In, 13 -In, 14 Vout

## LM339
designator DA?, comment LM339D (КФ1401СА1Б)
value: LM339D (КФ1401СА1Б)
footprint SOP14
part A pins: 1 Out, 3 Vcc, 6 -In, 7 +In, 12 Gng
part B pins: 2 Out, 4 -In, 5 +In
part C pins: 8 -In, 9 +In, 14 Out
part D pins: 10 -In, 11 +In, 13 Out

## LM1117
designator DA?, comment LM25011MY
value: LM25011MY
footprint SOT-223 (SOT-223/SC-73; 4 Leads; Body 6.7 x 7.3 mm, inc. leads (LxW max))
pins: 1 GND, 2 OUT, 3 Vin

## LM2671-X.X
designator DA?, comment LM2671MX-5.0/NOPB
value: LM2671MX-5.0/NOPB
footprint SO8 (SOIC, 8-Leads, Body 4.9x3.9mm, Pitch 1.27mm, IPC Medium Density)
pins: 1 CB, 2 SS, 3 SYNC, 4 FB, 5 ~{OFF}, 6 GND, 7 VIN, 8 VSW
text: DC/DC

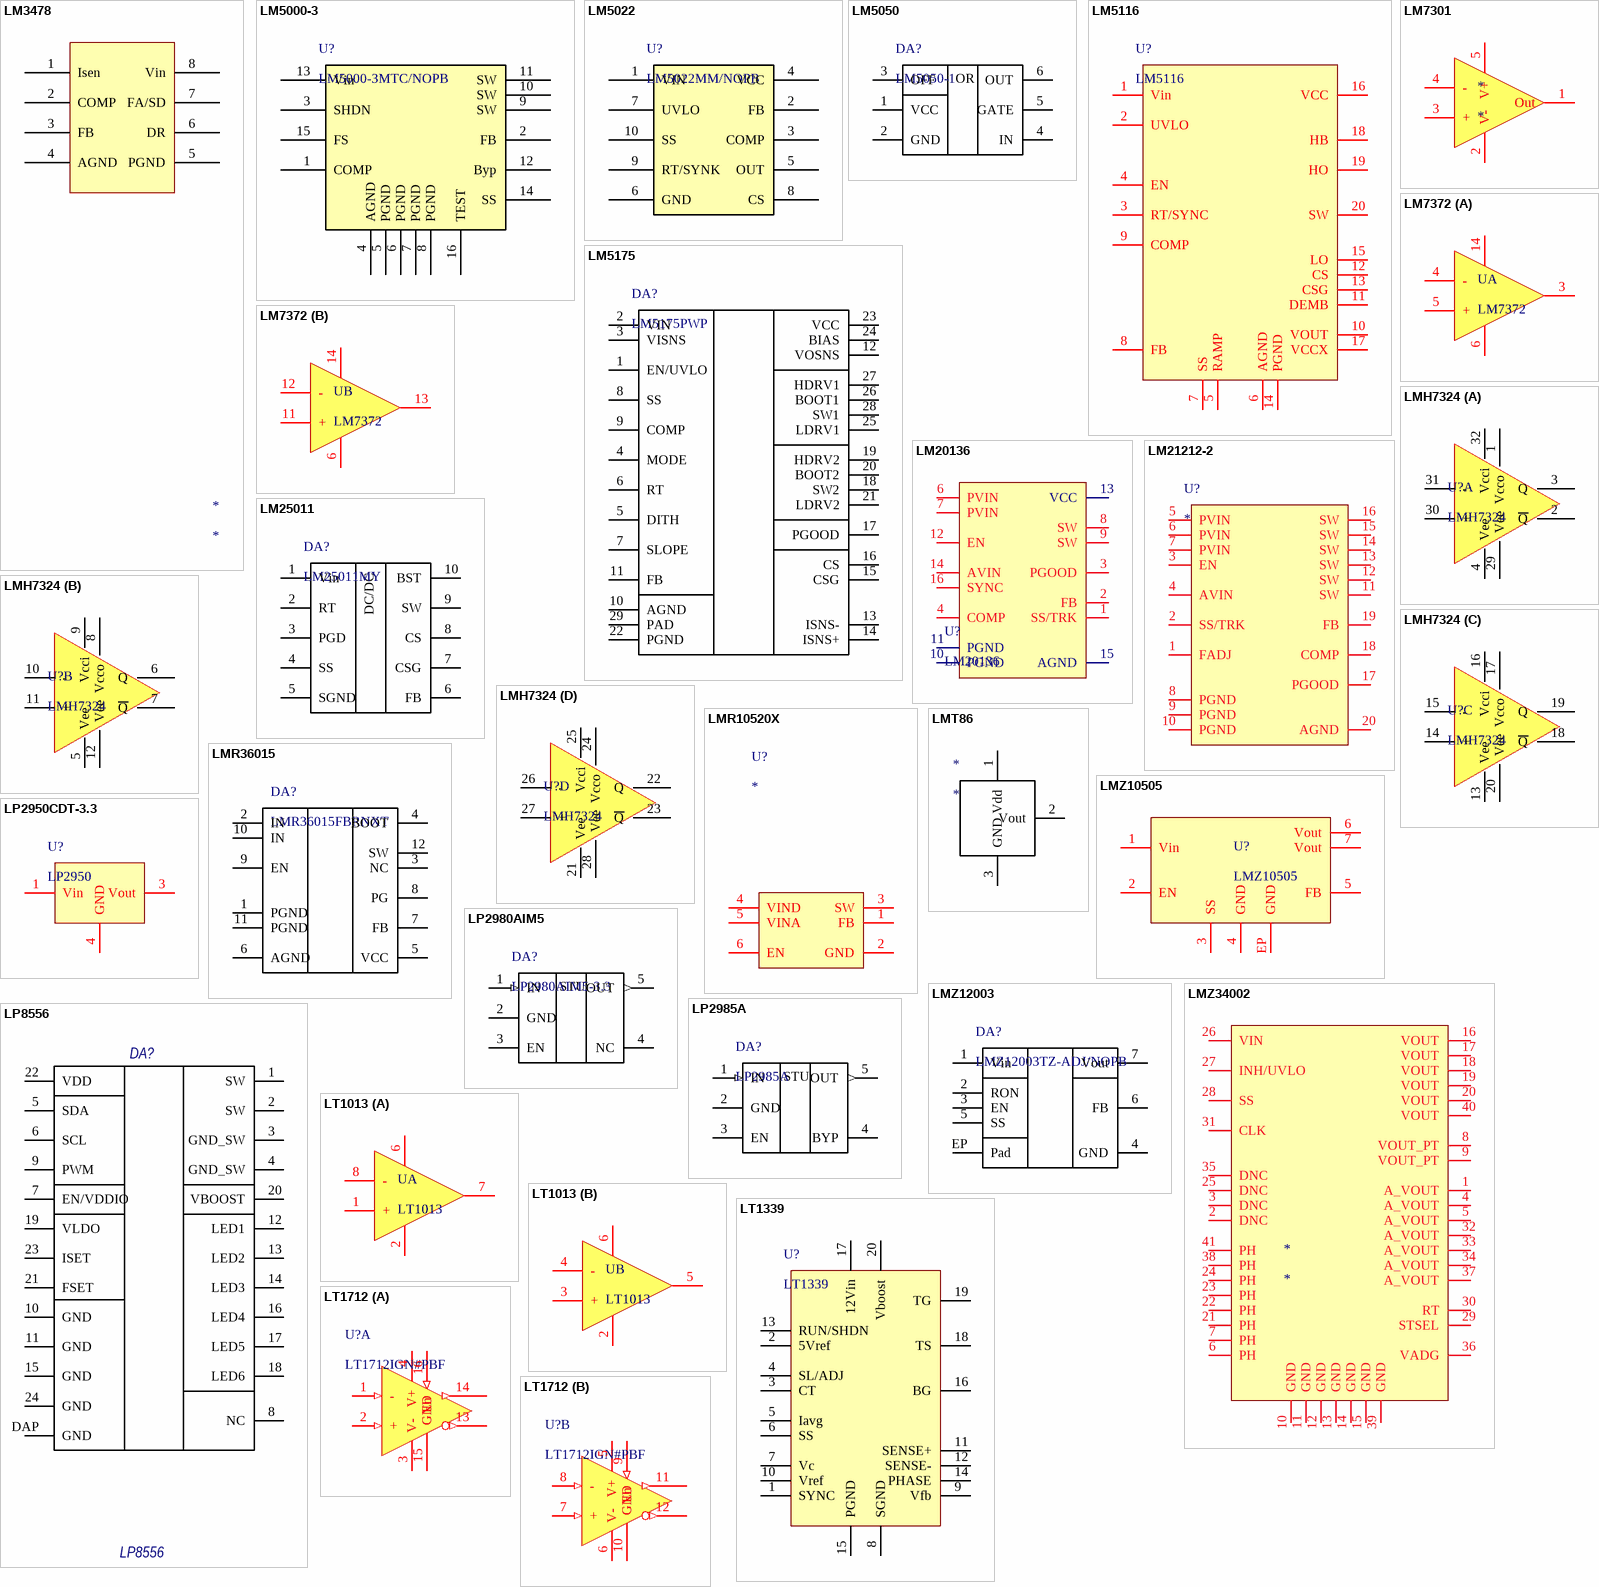
[diagram p25: symbols LM3478 to LT1712]

## LM3478
designator *
footprint VSSOP-8 (SOP, 8-Leads, Body 3x4.4mm, Pitch 0.65mm, IPC Medium Density)
pins: 1 Isen, 2 COMP, 3 FB, 4 AGND, 5 PGND, 6 DR, 7 FA/SD, 8 Vin

## LM5000-3
designator U?, comment LM5000-3MTC/NOPB
High  Voltage  Switch  Mode  Regulator; value: LM5000-3MTC/NOPB
footprint TSSOP16
pins: 1 COMP, 2 FB, 3 SHDN, 4 AGND, 5 PGND, 6 PGND, 7 PGND, 8 PGND, 9 SW, 10 SW, 11 SW, 12 Byp, 13 Vin, 14 SS, 15 FS, 16 TEST

## LM5022
designator U?, comment LM5022MM/NOPB
60-V Low-Side  Controller  for Boost  and SEPIC; value: LM5022MM/NOPB
footprint VSSOP-10 (Footprint not found)
pins: 1 VIN, 2 FB, 3 COMP, 4 VCC, 5 OUT, 6 GND, 7 UVLO, 8 CS, 9 RT/SYNK, 10 SS

## LM5050
designator DA?, comment LM5050-1
Active ORing controller; value: LM5050-1
pins: 1 VCC, 2 GND, 3 OFF, 4 IN, 5 GATE, 6 OUT
text: OR

## LM5116
designator U?
footprint TSSOP-20EP (TSSOP-20 with Exposed Pad)
pins: 0 GND hidden to GND, 1 Vin, 2 UVLO, 3 RT/SYNC, 4 EN, 5 RAMP, 6 AGND, 7 SS, 8 FB, 9 COMP, 10 VOUT, 11 DEMB, 12 CS, 13 CSG, 14 PGND, 15 LO, 16 VCC, 17 VCCX, 18 HB, 19 HO, 20 SW

## LM5175
designator DA?, comment LM5175PWP
value: LM5175PWP
footprint HTSSOP-28 (Footprint not found)
pins: 1 EN/UVLO, 2 VIN, 3 VISNS, 4 MODE, 5 DITH, 6 RT, 7 SLOPE, 8 SS, 9 COMP, 10 AGND, 11 FB, 12 VOSNS, 13 ISNS-, 14 ISNS+, 15 CSG, 16 CS, 17 PGOOD, 18 SW2, 19 HDRV2, 20 BOOT2, 21 LDRV2, 22 PGND, 23 VCC, 24 BIAS, 25 LDRV1, 26 BOOT1, 27 HDRV1, 28 SW1, 29 PAD

## LM7301
designator *
footprint SOT-23-5 (SOT-23 5pin)
pins: 1 Out, 2 V-, 3 +, 4 -, 5 V+

## LM7372
designator U
pins on every part: 6 V-, 14 V+
part A pins: 3 Out, 4 -, 5 +
part B pins: 11 +, 12 -, 13 Out

## LM20136
designator U?
pins: 1 SS/TRK, 2 FB, 3 PGOOD, 4 COMP, 6 PVIN, 7 PVIN, 8 SW, 9 SW, 10 PGND, 11 PGND, 12 EN, 13 VCC, 14 AVIN, 15 AGND, 16 SYNC

## LM21212-2
designator U?
pins: 1 FADJ, 2 SS/TRK, 3 EN, 4 AVIN, 5 PVIN, 6 PVIN, 7 PVIN, 8 PGND, 9 PGND, 10 PGND, 11 SW, 12 SW, 13 SW, 14 SW, 15 SW, 16 SW, 17 PGOOD, 18 COMP, 19 FB, 20 AGND

## LM25011
designator DA?, comment LM25011MY
value: LM25011MY
footprint MSOP10
pins: 1 Vin, 2 RT, 3 PGD, 4 SS, 5 SGND, 6 FB, 7 CSG, 8 CS, 9 SW, 10 BST
text: DC/DC

## LMH7324
designator U?
Quad 700ps High Speed Comparator with RSPECL Outputs; value: LMH7324
footprint WQFN-32
part A pins: 1 Vcco (power), 2 ~{Q} (power), 3 Q (power), 4 Vee (power), 29 Vee (power), 30 + (power), 31 - (power), 32 Vcci (power)
part B pins: 5 Vee (power), 6 Q (power), 7 ~{Q} (power), 8 Vcco (power), 9 Vcci (power), 10 - (power), 11 + (power), 12 Vee (power)
part C pins: 13 Vee (power), 14 + (power), 15 - (power), 16 Vcci (power), 17 Vcco (power), 18 ~{Q} (power), 19 Q (power), 20 Vee (power)
part D pins: 21 Vee (power), 22 Q (power), 23 ~{Q} (power), 24 Vcco (power), 25 Vcci (power), 26 - (power), 27 + (power), 28 Vee (power)

## LMR10520X
designator U?
pins: 1 FB, 2 GND, 3 SW, 4 VIND, 5 VINA, 6 EN

## LMR36015
designator DA?, comment LMR36015FBRNXT
value: LMR36015FBRNXT
footprint SO8 (SOIC, 8-Leads, Body 4.9x3.9mm, Pitch 1.27mm, IPC Medium Density)
pins: 1 PGND, 2 IN, 3 NC, 4 BOOT, 5 VCC, 6 AGND, 7 FB, 8 PG, 9 EN, 10 IN, 11 PGND, 12 SW

## LMT86
designator *
pins: 1 Vdd, 2 Vout, 3 GND

## LMZ10505
designator U?
pins: 1 Vin, 2 EN, 3 SS, 4 GND, 5 FB, 6 Vout, 7 Vout, EP GND

## LMZ12003
designator DA?, comment LMZ12003TZ-ADJ/NOPB
value: LMZ12003TZ-ADJ/NOPB
footprint TO-PMOD-7
pins: 1 Vin (power), 2 RON (power), 3 EN (power), 4 GND (power), 5 SS (power), 6 FB (power), 7 Vout (power), EP Pad (power)

## LMZ34002
designator *
footprint QFN-41_PAD
pins: 1 A_VOUT, 2 DNC, 3 DNC, 4 A_VOUT, 5 A_VOUT, 6 PH, 7 PH, 8 VOUT_PT, 9 VOUT_PT, 10 GND, 11 GND, 12 GND, 13 GND, 14 GND, 15 GND, 16 VOUT, 17 VOUT, 18 VOUT, 19 VOUT, 20 VOUT, 21 PH, 22 PH, 23 PH, 24 PH, 25 DNC, 26 VIN, 27 INH/UVLO, 28 SS, 29 STSEL, 30 RT, 31 CLK, 32 A_VOUT, 33 A_VOUT, 34 A_VOUT, 35 DNC, 36 VADG, 37 A_VOUT, 38 PH, 39 GND, 40 VOUT, 41 PH

## LP2950CDT-3.3
designator U?, comment LP2950
footprint TO-252(D-PAK)
pins: 1 Vin, 3 Vout, 4 GND

## LP2980AIM5
designator DA?, comment LP2980AIM5-3.3
Micropower 50 mA Ultra Low-Dropout Regulator; value: LP2980AIM5-3.3
footprint SOT-23-5 (SOT-23 5pin)
pins: 1 IN (in), 2 GND (power), 3 EN, 4 NC, 5 OUT (out)
text: STU

## LP2985A
designator DA?
150-mA  LOW-DROPOUT LINEAR REGULATORS; value: LP2985A
footprint SOT-23-5 (SOT-23 5pin)
pins: 1 IN (in), 2 GND (power), 3 EN, 4 BYP, 5 OUT (out)
text: STU

## LP8556
designator DA?
LED Backlight Driver; value: LP8556
pins: 1 SW, 2 SW, 3 GND_SW, 4 GND_SW, 5 SDA, 6 SCL, 7 EN/VDDIO, 8 NC, 9 PWM, 10 GND, 11 GND, 12 LED1, 13 LED2, 14 LED3, 15 GND, 16 LED4, 17 LED5, 18 LED6, 19 VLDO, 20 VBOOST, 21 FSET, 22 VDD, 23 ISET, 24 GND, DAP GND

## LT1013
designator U
footprint SOIC8
pins on every part: 2 Vcc-, 6 Vcc+
part A pins: 1 +, 7 Out, 8 -
part B pins: 3 +, 4 -, 5 Out

## LT1339
designator U?
pins: 1 SYNC, 2 5Vref, 3 CT, 4 SL/ADJ, 5 Iavg, 6 SS, 7 Vc, 8 SGND, 9 Vfb, 10 Vref, 11 SENSE+, 12 SENSE-, 13 RUN/SHDN, 14 PHASE, 15 PGND, 16 BG, 17 12Vin, 18 TS, 19 TG, 20 Vboost

## LT1712
designator U?, comment LT1712IGN#PBF
value: LT1712IGN#PBF
footprint LT-GN16_N (SOP, 16-Leads, Body 4.89x3.9mm, Pitch 0.635mm, , IPC Medium Density)
part A pins: 1 - (in), 2 + (in), 3 V- (power), 4 V+ (power), 13 Out (out), 14 Out (out), 15 GND (power), 16 En (in)
part B pins: 5 V+ (power), 6 V- (power), 7 + (in), 8 - (in), 9 En (in), 10 GND (power), 11 Out (out), 12 Out (out)

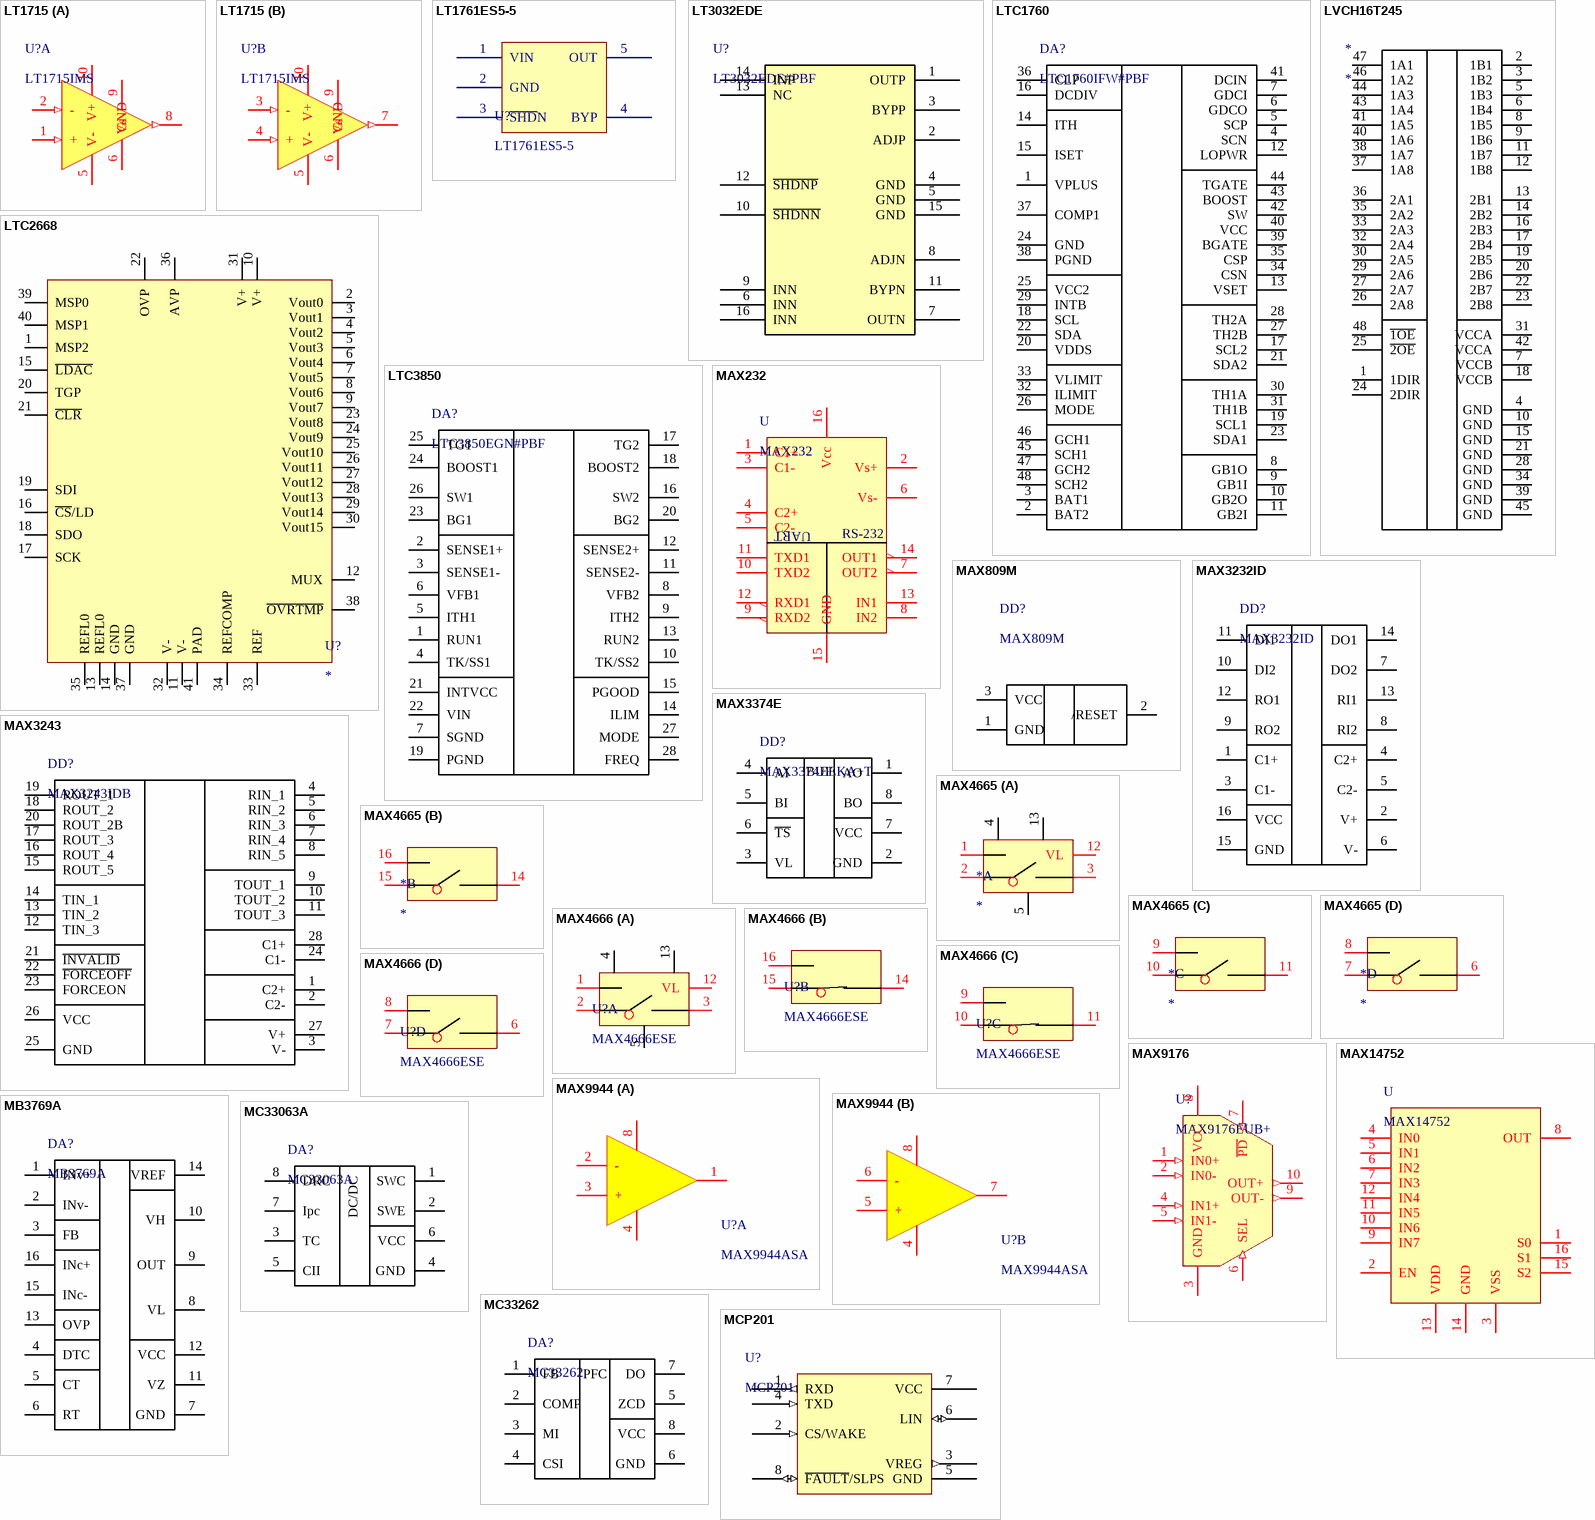
[diagram p26: symbols LT1715 to MCP201]

## LT1715
designator U?, comment LT1715IMS
value: LT1715IMS
footprint MSOP10
part A pins: 1 + (in), 2 - (in), 5 V- (power), 6 GND (power), 8 Out (out), 9 Vs (power), 10 V+ (power)
part B pins: 3 - (in), 4 + (in), 5 V- (power), 6 GND (power), 7 Out (out), 9 Vs (power), 10 V+ (power)

## LT1761ES5-5
designator U?
value: LT1761ES5-5
footprint SOT-23-5 (SOT-23 5pin)
pins: 1 VIN, 2 GND, 3 ~{SHD}N, 4 BYP, 5 OUT

## LT3032EDE
designator U?, comment LT3032EDE#PBF
value: LT3032EDE#PBF
footprint DFN14 (DE14MA) (DE14MA PACKAGE  14-LEAD (4mm   ?   3mm) PLASTIC DFN)
pins: 1 OUTP, 2 ADJP, 3 BYPP, 4 GND, 5 GND, 6 INN, 7 OUTN, 8 ADJN, 9 INN, 10 ~{SHDNN}, 11 BYPN, 12 ~{SHDNP}, 13 NC, 14 INP, 15 GND, 16 INN

## LTC1760
designator DA?, comment LTC1760IFW#PBF
Charger 2-chanel; value: LTC1760IFW#PBF
footprint TSSOP48 (TSSOP, 48-Leads, Body 12,60x6,20mm, Pitch 0,50mm, IPC Medium Density)
pins: 1 VPLUS, 2 BAT2, 3 BAT1, 4 SCN, 5 SCP, 6 GDCO, 7 GDCI, 8 GB1O, 9 GB1I, 10 GB2O, 11 GB2I, 12 LOPWR, 13 VSET, 14 ITH, 15 ISET, 16 DCDIV, 17 SCL2, 18 SCL, 19 SCL1, 20 VDDS, 21 SDA2, 22 SDA, 23 SDA1, 24 GND, 25 VCC2, 26 MODE, 27 TH2B, 28 TH2A, 29 INTB, 30 TH1A, 31 TH1B, 32 ILIMIT, 33 VLIMIT, 34 CSN, 35 CSP, 36 CLP, 37 COMP1, 38 PGND, 39 BGATE, 40 VCC, 41 DCIN, 42 SW, 43 BOOST, 44 TGATE, 45 SCH1, 46 GCH1, 47 GCH2, 48 SCH2

## LTC2668
designator U?
footprint QFN40_PAD_ (QFN, 40-Leads, Body 6,60x6,60mm, Pitch 0,50mm, Thermal Pad 4,25x4,25mm, IPC Medium Density)
pins: 1 MSP2, 2 Vout0, 3 Vout1, 4 Vout2, 5 Vout3, 6 Vout4, 7 Vout5, 8 Vout6, 9 Vout7, 10 V+, 11 V-, 12 MUX, 13 REFL0, 14 GND, 15 ~{LDAC}, 16 ~{CS}/LD, 17 SCK, 18 SDO, 19 SDI, 20 TGP, 21 ~{CLR}, 22 OVP, 23 Vout8, 24 Vout9, 25 Vout10, 26 Vout11, 27 Vout12, 28 Vout13, 29 Vout14, 30 Vout15, 31 V+, 32 V-, 33 REF, 34 REFCOMP, 35 REFL0, 36 AVP, 37 GND, 38 ~{OVRTMP}, 39 MSP0, 40 MSP1, 41 PAD

## LTC3850
designator DA?, comment LTC3850EGN#PBF
value: LTC3850EGN#PBF
footprint SSOP-28
pins: 1 RUN1, 2 SENSE1+, 3 SENSE1-, 4 TK/SS1, 5 ITH1, 6 VFB1, 7 SGND, 8 VFB2, 9 ITH2, 10 TK/SS2, 11 SENSE2-, 12 SENSE2+, 13 RUN2, 14 ILIM, 15 PGOOD, 16 SW2, 17 TG2, 18 BOOST2, 19 PGND, 20 BG2, 21 INTVCC, 22 VIN, 23 BG1, 24 BOOST1, 25 TG1, 26 SW1, 27 MODE, 28 FREQ

## LVCH16T245
designator *
pins: 1 1DIR, 2 1B1, 3 1B2, 4 GND, 5 1B3, 6 1B4, 7 VCCB, 8 1B5, 9 1B6, 10 GND, 11 1B7, 12 1B8, 13 2B1, 14 2B2, 15 GND, 16 2B3, 17 2B4, 18 VCCB, 19 2B5, 20 2B6, 21 GND, 22 2B7, 23 2B8, 24 2DIR, 25 ~{2OE}, 26 2A8, 27 2A7, 28 GND, 29 2A6, 30 2A5, 31 VCCA, 32 2A4, 33 2A3, 34 GND, 35 2A2, 36 2A1, 37 1A8, 38 1A7, 39 GND, 40 1A6, 41 1A5, 42 VCCA, 43 1A4, 44 1A3, 45 GND, 46 1A2, 47 1A1, 48 ~{1OE}

## MAX232
designator U
pins: 1 C1+, 2 Vs+, 3 C1-, 4 C2+, 5 C2-, 6 Vs-, 7 OUT2, 8 IN2, 9 RXD2, 10 TXD2, 11 TXD1, 12 RXD1, 13 IN1, 14 OUT1, 15 GND, 16 Vcc
text: UART; RS-232

## MAX809M
designator DD?
value: MAX809M
footprint SOT23-8 (Footprint not found)
pins: 1 GND, 2 /RESET, 3 VCC

## MAX3232ID
designator DD?
value: MAX3232ID
footprint SOIC_N 16
pins: 1 C1+, 2 V+, 3 C1-, 4 C2+, 5 C2-, 6 V-, 7 DO2, 8 RI2, 9 RO2, 10 DI2, 11 DI1, 12 RO1, 13 RI1, 14 DO1, 15 GND, 16 VCC

## MAX3243
designator DD?, comment MAX3243IDB
value: MAX3243IDB
footprint SSOP-28
pins: 1 C2+, 2 C2-, 3 V-, 4 RIN_1, 5 RIN_2, 6 RIN_3, 7 RIN_4, 8 RIN_5, 9 TOUT_1, 10 TOUT_2, 11 TOUT_3, 12 TIN_3, 13 TIN_2, 14 TIN_1, 15 ROUT_5, 16 ROUT_4, 17 ROUT_3, 18 ROUT_2, 19 ROUT_1, 20 ROUT_2B, 21 ~{INVALID}, 22 ~{FORCEOFF}, 23 FORCEON, 24 C1-, 25 GND, 26 VCC, 27 V+, 28 C1+